# Altium integrated library Xilinx PLD XC9500.IntLib: 114 symbols (part 1 of 7)
Pins are listed as number, name and electrical type; pins without a type are passive.

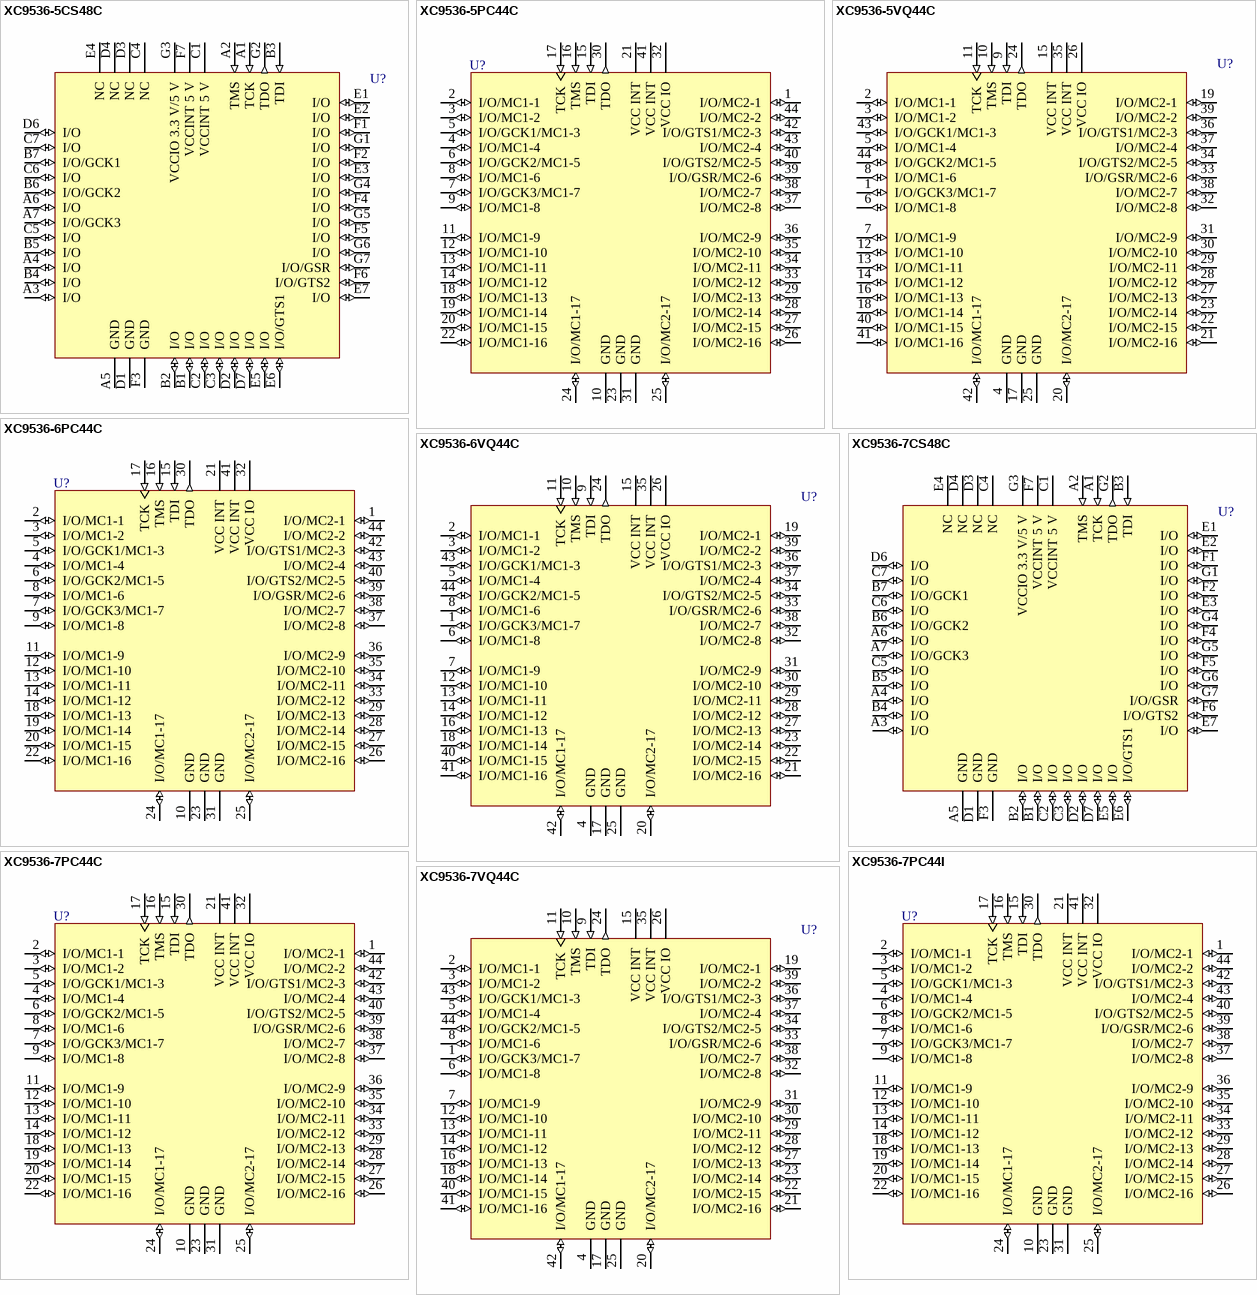
[diagram p0: symbols XC9536-5CS48C to XC9536-7VQ44C]

## XC9536-5CS48C
designator U?
XC9500, 5V CPLD with 36 Macrocells, 48-Ball CSBGA, Commercial Grade; PackageDocument: ver1.1, Apr-2001; Published: 17-Sep-2003; DatasheetDocument: ver6.1, Aug-2003; PackageReference: CS48; Publisher: Altium Limited
footprint CS48 (48-Ball Chip Scale Ball Grid Array (CS48))
3D model XC9536-CS48 (48-Ball Chip Scale Ball Grid Array (CS48))
pins: A1 TCK (in), A2 TMS (in), A3 I/O (io), A4 I/O (io), A5 GND (power), A6 I/O (io), A7 I/O/GCK3 (io), B1 I/O (io), B2 I/O (io), B3 TDI (in), B4 I/O (io), B5 I/O (io), B6 I/O/GCK2 (io), B7 I/O/GCK1 (io), C1 VCCINT 5 V (power), C2 I/O (io), C3 I/O (io), C4 NC, C5 I/O (io), C6 I/O (io), C7 I/O (io), D1 GND (power), D2 I/O (io), D3 NC, D4 NC, D6 I/O (io), D7 I/O (io), E1 I/O (io), E2 I/O (io), E3 I/O (io), E4 NC, E5 I/O (io), E6 I/O/GTS1 (io), E7 I/O (io), F1 I/O (io), F2 I/O (io), F3 GND (power), F4 I/O (io), F5 I/O (io), F6 I/O/GTS2 (io), F7 VCCINT 5 V (power), G1 I/O (io), G2 TDO (out), G3 VCCIO 3.3 V/5 V (power), G4 I/O (io), G5 I/O (io), G6 I/O (io), G7 I/O/GSR (io)

## XC9536-5PC44C
designator U?
XC9500, 5V CPLD with 36 Macrocells, 44-Pin PLCC, Commercial Grade; PackageDocument: ver1.0, Jun-2000; Published: 8-Jun-2000; LatestRevisionDate: 17-Sep-2003; LatestRevisionNote: PCB Footprint dimensions updated; DatasheetDocument: ver6.1, Aug-2003; PackageReference: PC44; Publisher: Altium Limited; Code_JEDEC: MS-047; Code_IPC: PLCC-44
footprint PC44 (44-Pin Plastic Leaded Chip Carrier (PC44))
3D model XC9536-PC44 (44-Pin Plastic Leaded Chip Carrier (PC44))
signal-integrity model XC9536_PLCC44 (XC9500)
pins: 1 I/O/MC2-1 (io), 2 I/O/MC1-1 (io), 3 I/O/MC1-2 (io), 4 I/O/MC1-4 (io), 5 I/O/GCK1/MC1-3 (io), 6 I/O/GCK2/MC1-5 (io), 7 I/O/GCK3/MC1-7 (io), 8 I/O/MC1-6 (io), 9 I/O/MC1-8 (io), 10 GND (power), 11 I/O/MC1-9 (io), 12 I/O/MC1-10 (io), 13 I/O/MC1-11 (io), 14 I/O/MC1-12 (io), 15 TDI (in), 16 TMS (in), 17 TCK (in), 18 I/O/MC1-13 (io), 19 I/O/MC1-14 (io), 20 I/O/MC1-15 (io), 21 VCC INT (power), 22 I/O/MC1-16 (io), 23 GND (power), 24 I/O/MC1-17 (io), 25 I/O/MC2-17 (io), 26 I/O/MC2-16 (io), 27 I/O/MC2-15 (io), 28 I/O/MC2-14 (io), 29 I/O/MC2-13 (io), 30 TDO (out), 31 GND (power), 32 VCC IO (power), 33 I/O/MC2-12 (io), 34 I/O/MC2-11 (io), 35 I/O/MC2-10 (io), 36 I/O/MC2-9 (io), 37 I/O/MC2-8 (io), 38 I/O/MC2-7 (io), 39 I/O/GSR/MC2-6 (io), 40 I/O/GTS2/MC2-5 (io), 41 VCC INT (power), 42 I/O/GTS1/MC2-3 (io), 43 I/O/MC2-4 (io), 44 I/O/MC2-2 (io)

## XC9536-5VQ44C
designator U?
XC9500, 5V CPLD with 36 Macrocells, 44-Pin VQFP, Commercial Grade; PackageDocument: ver1.1, Oct-2002; Published: 8-Jun-2000; LatestRevisionDate: 17-Jul-2002; LatestRevisionNote: Re-released for DXP Platform.; DatasheetDocument: ver6.1, Aug-2003; PackageReference: VQ44; Publisher: Altium Limited; Code_JEDEC: MS-026-ACB
footprint VQ44 (44-Pin Very Thin Quad Flat Pack (VQ44))
3D model XC9536-VQ44 (44-Pin Very Thin Quad Flat Pack (VQ44))
signal-integrity model XC9536_VQ44 (XC9500)
pins: 1 I/O/GCK3/MC1-7 (io), 2 I/O/MC1-1 (io), 3 I/O/MC1-2 (io), 4 GND (power), 5 I/O/MC1-4 (io), 6 I/O/MC1-8 (io), 7 I/O/MC1-9 (io), 8 I/O/MC1-6 (io), 9 TDI (in), 10 TMS (in), 11 TCK (in), 12 I/O/MC1-10 (io), 13 I/O/MC1-11 (io), 14 I/O/MC1-12 (io), 15 VCC INT (power), 16 I/O/MC1-13 (io), 17 GND (power), 18 I/O/MC1-14 (io), 19 I/O/MC2-1 (io), 20 I/O/MC2-17 (io), 21 I/O/MC2-16 (io), 22 I/O/MC2-15 (io), 23 I/O/MC2-14 (io), 24 TDO (out), 25 GND (power), 26 VCC IO (power), 27 I/O/MC2-13 (io), 28 I/O/MC2-12 (io), 29 I/O/MC2-11 (io), 30 I/O/MC2-10 (io), 31 I/O/MC2-9 (io), 32 I/O/MC2-8 (io), 33 I/O/GSR/MC2-6 (io), 34 I/O/GTS2/MC2-5 (io), 35 VCC INT (power), 36 I/O/GTS1/MC2-3 (io), 37 I/O/MC2-4 (io), 38 I/O/MC2-7 (io), 39 I/O/MC2-2 (io), 40 I/O/MC1-15 (io), 41 I/O/MC1-16 (io), 42 I/O/MC1-17 (io), 43 I/O/GCK1/MC1-3 (io), 44 I/O/GCK2/MC1-5 (io)

## XC9536-6PC44C
designator U?
XC9500, 5V CPLD with 36 Macrocells, 44-Pin PLCC, Commercial Grade; PackageDocument: ver1.0, Jun-2000; Published: 17-Sep-2003; DatasheetDocument: ver6.1, Aug-2003; PackageReference: PC44; Publisher: Altium Limited; Code_JEDEC: MS-047; Code_IPC: PLCC-44
footprint PC44 (44-Pin Plastic Leaded Chip Carrier (PC44))
3D model XC9536-PC44 (44-Pin Plastic Leaded Chip Carrier (PC44))
signal-integrity model XC9536_PLCC44 (XC9500)
pins: 1 I/O/MC2-1 (io), 2 I/O/MC1-1 (io), 3 I/O/MC1-2 (io), 4 I/O/MC1-4 (io), 5 I/O/GCK1/MC1-3 (io), 6 I/O/GCK2/MC1-5 (io), 7 I/O/GCK3/MC1-7 (io), 8 I/O/MC1-6 (io), 9 I/O/MC1-8 (io), 10 GND (power), 11 I/O/MC1-9 (io), 12 I/O/MC1-10 (io), 13 I/O/MC1-11 (io), 14 I/O/MC1-12 (io), 15 TDI (in), 16 TMS (in), 17 TCK (in), 18 I/O/MC1-13 (io), 19 I/O/MC1-14 (io), 20 I/O/MC1-15 (io), 21 VCC INT (power), 22 I/O/MC1-16 (io), 23 GND (power), 24 I/O/MC1-17 (io), 25 I/O/MC2-17 (io), 26 I/O/MC2-16 (io), 27 I/O/MC2-15 (io), 28 I/O/MC2-14 (io), 29 I/O/MC2-13 (io), 30 TDO (out), 31 GND (power), 32 VCC IO (power), 33 I/O/MC2-12 (io), 34 I/O/MC2-11 (io), 35 I/O/MC2-10 (io), 36 I/O/MC2-9 (io), 37 I/O/MC2-8 (io), 38 I/O/MC2-7 (io), 39 I/O/GSR/MC2-6 (io), 40 I/O/GTS2/MC2-5 (io), 41 VCC INT (power), 42 I/O/GTS1/MC2-3 (io), 43 I/O/MC2-4 (io), 44 I/O/MC2-2 (io)

## XC9536-6VQ44C
designator U?
XC9500, 5V CPLD with 36 Macrocells, 44-Pin VQFP, Commercial Grade; PackageDocument: ver1.1, Oct-2002; Published: 17-Sep-2003; DatasheetDocument: ver6.1, Aug-2003; PackageReference: VQ44; Publisher: Altium Limited; Code_JEDEC: MS-026-ACB
footprint VQ44 (44-Pin Very Thin Quad Flat Pack (VQ44))
3D model XC9536-VQ44 (44-Pin Very Thin Quad Flat Pack (VQ44))
signal-integrity model XC9536_VQ44 (XC9500)
pins: 1 I/O/GCK3/MC1-7 (io), 2 I/O/MC1-1 (io), 3 I/O/MC1-2 (io), 4 GND (power), 5 I/O/MC1-4 (io), 6 I/O/MC1-8 (io), 7 I/O/MC1-9 (io), 8 I/O/MC1-6 (io), 9 TDI (in), 10 TMS (in), 11 TCK (in), 12 I/O/MC1-10 (io), 13 I/O/MC1-11 (io), 14 I/O/MC1-12 (io), 15 VCC INT (power), 16 I/O/MC1-13 (io), 17 GND (power), 18 I/O/MC1-14 (io), 19 I/O/MC2-1 (io), 20 I/O/MC2-17 (io), 21 I/O/MC2-16 (io), 22 I/O/MC2-15 (io), 23 I/O/MC2-14 (io), 24 TDO (out), 25 GND (power), 26 VCC IO (power), 27 I/O/MC2-13 (io), 28 I/O/MC2-12 (io), 29 I/O/MC2-11 (io), 30 I/O/MC2-10 (io), 31 I/O/MC2-9 (io), 32 I/O/MC2-8 (io), 33 I/O/GSR/MC2-6 (io), 34 I/O/GTS2/MC2-5 (io), 35 VCC INT (power), 36 I/O/GTS1/MC2-3 (io), 37 I/O/MC2-4 (io), 38 I/O/MC2-7 (io), 39 I/O/MC2-2 (io), 40 I/O/MC1-15 (io), 41 I/O/MC1-16 (io), 42 I/O/MC1-17 (io), 43 I/O/GCK1/MC1-3 (io), 44 I/O/GCK2/MC1-5 (io)

## XC9536-7CS48C
designator U?
XC9500, 5V CPLD with 36 Macrocells, 48-Ball CSBGA, Commercial Grade; PackageDocument: ver1.1, Apr-2001; Published: 17-Sep-2003; DatasheetDocument: ver6.1, Aug-2003; PackageReference: CS48; Publisher: Altium Limited
footprint CS48 (48-Ball Chip Scale Ball Grid Array (CS48))
3D model XC9536-CS48 (48-Ball Chip Scale Ball Grid Array (CS48))
pins: A1 TCK (in), A2 TMS (in), A3 I/O (io), A4 I/O (io), A5 GND (power), A6 I/O (io), A7 I/O/GCK3 (io), B1 I/O (io), B2 I/O (io), B3 TDI (in), B4 I/O (io), B5 I/O (io), B6 I/O/GCK2 (io), B7 I/O/GCK1 (io), C1 VCCINT 5 V (power), C2 I/O (io), C3 I/O (io), C4 NC, C5 I/O (io), C6 I/O (io), C7 I/O (io), D1 GND (power), D2 I/O (io), D3 NC, D4 NC, D6 I/O (io), D7 I/O (io), E1 I/O (io), E2 I/O (io), E3 I/O (io), E4 NC, E5 I/O (io), E6 I/O/GTS1 (io), E7 I/O (io), F1 I/O (io), F2 I/O (io), F3 GND (power), F4 I/O (io), F5 I/O (io), F6 I/O/GTS2 (io), F7 VCCINT 5 V (power), G1 I/O (io), G2 TDO (out), G3 VCCIO 3.3 V/5 V (power), G4 I/O (io), G5 I/O (io), G6 I/O (io), G7 I/O/GSR (io)

## XC9536-7PC44C
designator U?
XC9500, 5V CPLD with 36 Macrocells, 44-Pin PLCC, Commercial Grade; PackageDocument: ver1.0, Jun-2000; Published: 8-Jun-2000; LatestRevisionDate: 17-Sep-2003; LatestRevisionNote: PCB Footprint dimensions updated; DatasheetDocument: ver6.1, Aug-2003; PackageReference: PC44; Publisher: Altium Limited; Code_JEDEC: MS-047; Code_IPC: PLCC-44
footprint PC44 (44-Pin Plastic Leaded Chip Carrier (PC44))
3D model XC9536-PC44 (44-Pin Plastic Leaded Chip Carrier (PC44))
signal-integrity model XC9536_PLCC44 (XC9500)
pins: 1 I/O/MC2-1 (io), 2 I/O/MC1-1 (io), 3 I/O/MC1-2 (io), 4 I/O/MC1-4 (io), 5 I/O/GCK1/MC1-3 (io), 6 I/O/GCK2/MC1-5 (io), 7 I/O/GCK3/MC1-7 (io), 8 I/O/MC1-6 (io), 9 I/O/MC1-8 (io), 10 GND (power), 11 I/O/MC1-9 (io), 12 I/O/MC1-10 (io), 13 I/O/MC1-11 (io), 14 I/O/MC1-12 (io), 15 TDI (in), 16 TMS (in), 17 TCK (in), 18 I/O/MC1-13 (io), 19 I/O/MC1-14 (io), 20 I/O/MC1-15 (io), 21 VCC INT (power), 22 I/O/MC1-16 (io), 23 GND (power), 24 I/O/MC1-17 (io), 25 I/O/MC2-17 (io), 26 I/O/MC2-16 (io), 27 I/O/MC2-15 (io), 28 I/O/MC2-14 (io), 29 I/O/MC2-13 (io), 30 TDO (out), 31 GND (power), 32 VCC IO (power), 33 I/O/MC2-12 (io), 34 I/O/MC2-11 (io), 35 I/O/MC2-10 (io), 36 I/O/MC2-9 (io), 37 I/O/MC2-8 (io), 38 I/O/MC2-7 (io), 39 I/O/GSR/MC2-6 (io), 40 I/O/GTS2/MC2-5 (io), 41 VCC INT (power), 42 I/O/GTS1/MC2-3 (io), 43 I/O/MC2-4 (io), 44 I/O/MC2-2 (io)

## XC9536-7PC44I
designator U?
XC9500, 5V CPLD with 36 Macrocells, 44-Pin PLCC, Industrial Grade; PackageDocument: ver1.0, Jun-2000; Published: 17-Sep-2003; DatasheetDocument: ver6.1, Aug-2003; PackageReference: PC44; Publisher: Altium Limited; Code_JEDEC: MS-047; Code_IPC: PLCC-44
footprint PC44 (44-Pin Plastic Leaded Chip Carrier (PC44))
3D model XC9536-PC44 (44-Pin Plastic Leaded Chip Carrier (PC44))
signal-integrity model XC9536_PLCC44 (XC9500)
pins: 1 I/O/MC2-1 (io), 2 I/O/MC1-1 (io), 3 I/O/MC1-2 (io), 4 I/O/MC1-4 (io), 5 I/O/GCK1/MC1-3 (io), 6 I/O/GCK2/MC1-5 (io), 7 I/O/GCK3/MC1-7 (io), 8 I/O/MC1-6 (io), 9 I/O/MC1-8 (io), 10 GND (power), 11 I/O/MC1-9 (io), 12 I/O/MC1-10 (io), 13 I/O/MC1-11 (io), 14 I/O/MC1-12 (io), 15 TDI (in), 16 TMS (in), 17 TCK (in), 18 I/O/MC1-13 (io), 19 I/O/MC1-14 (io), 20 I/O/MC1-15 (io), 21 VCC INT (power), 22 I/O/MC1-16 (io), 23 GND (power), 24 I/O/MC1-17 (io), 25 I/O/MC2-17 (io), 26 I/O/MC2-16 (io), 27 I/O/MC2-15 (io), 28 I/O/MC2-14 (io), 29 I/O/MC2-13 (io), 30 TDO (out), 31 GND (power), 32 VCC IO (power), 33 I/O/MC2-12 (io), 34 I/O/MC2-11 (io), 35 I/O/MC2-10 (io), 36 I/O/MC2-9 (io), 37 I/O/MC2-8 (io), 38 I/O/MC2-7 (io), 39 I/O/GSR/MC2-6 (io), 40 I/O/GTS2/MC2-5 (io), 41 VCC INT (power), 42 I/O/GTS1/MC2-3 (io), 43 I/O/MC2-4 (io), 44 I/O/MC2-2 (io)

## XC9536-7VQ44C
designator U?
XC9500, 5V CPLD with 36 Macrocells, 44-Pin VQFP, Commercial Grade; PackageDocument: ver1.1, Oct-2002; Published: 8-Jun-2000; LatestRevisionDate: 17-Jul-2002; LatestRevisionNote: Re-released for DXP Platform.; DatasheetDocument: ver6.1, Aug-2003; PackageReference: VQ44; Publisher: Altium Limited; Code_JEDEC: MS-026-ACB
footprint VQ44 (44-Pin Very Thin Quad Flat Pack (VQ44))
3D model XC9536-VQ44 (44-Pin Very Thin Quad Flat Pack (VQ44))
signal-integrity model XC9536_VQ44 (XC9500)
pins: 1 I/O/GCK3/MC1-7 (io), 2 I/O/MC1-1 (io), 3 I/O/MC1-2 (io), 4 GND (power), 5 I/O/MC1-4 (io), 6 I/O/MC1-8 (io), 7 I/O/MC1-9 (io), 8 I/O/MC1-6 (io), 9 TDI (in), 10 TMS (in), 11 TCK (in), 12 I/O/MC1-10 (io), 13 I/O/MC1-11 (io), 14 I/O/MC1-12 (io), 15 VCC INT (power), 16 I/O/MC1-13 (io), 17 GND (power), 18 I/O/MC1-14 (io), 19 I/O/MC2-1 (io), 20 I/O/MC2-17 (io), 21 I/O/MC2-16 (io), 22 I/O/MC2-15 (io), 23 I/O/MC2-14 (io), 24 TDO (out), 25 GND (power), 26 VCC IO (power), 27 I/O/MC2-13 (io), 28 I/O/MC2-12 (io), 29 I/O/MC2-11 (io), 30 I/O/MC2-10 (io), 31 I/O/MC2-9 (io), 32 I/O/MC2-8 (io), 33 I/O/GSR/MC2-6 (io), 34 I/O/GTS2/MC2-5 (io), 35 VCC INT (power), 36 I/O/GTS1/MC2-3 (io), 37 I/O/MC2-4 (io), 38 I/O/MC2-7 (io), 39 I/O/MC2-2 (io), 40 I/O/MC1-15 (io), 41 I/O/MC1-16 (io), 42 I/O/MC1-17 (io), 43 I/O/GCK1/MC1-3 (io), 44 I/O/GCK2/MC1-5 (io)

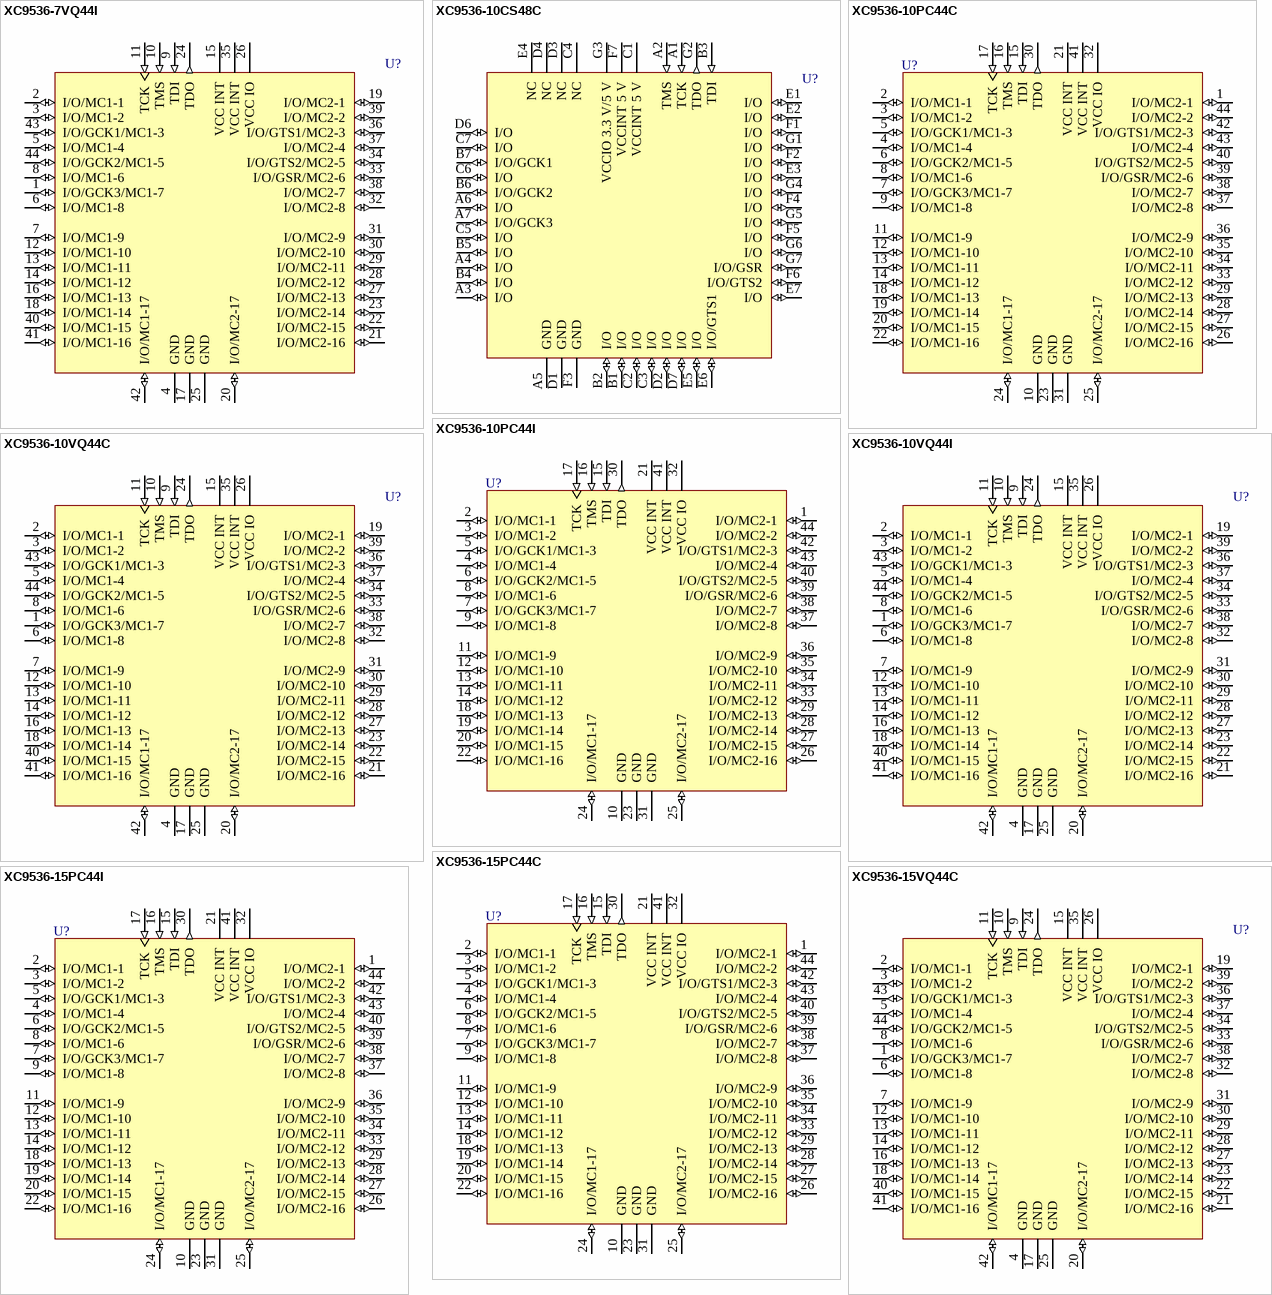
[diagram p1: symbols XC9536-7VQ44I to XC9536-15VQ44C]

## XC9536-7VQ44I
designator U?
XC9500, 5V CPLD with 36 Macrocells, 44-Pin VQFP, Industrial Grade; PackageDocument: ver1.1, Oct-2002; Published: 17-Sep-2003; DatasheetDocument: ver6.1, Aug-2003; PackageReference: VQ44; Publisher: Altium Limited; Code_JEDEC: MS-026-ACB
footprint VQ44 (44-Pin Very Thin Quad Flat Pack (VQ44))
3D model XC9536-VQ44 (44-Pin Very Thin Quad Flat Pack (VQ44))
signal-integrity model XC9536_VQ44 (XC9500)
pins: 1 I/O/GCK3/MC1-7 (io), 2 I/O/MC1-1 (io), 3 I/O/MC1-2 (io), 4 GND (power), 5 I/O/MC1-4 (io), 6 I/O/MC1-8 (io), 7 I/O/MC1-9 (io), 8 I/O/MC1-6 (io), 9 TDI (in), 10 TMS (in), 11 TCK (in), 12 I/O/MC1-10 (io), 13 I/O/MC1-11 (io), 14 I/O/MC1-12 (io), 15 VCC INT (power), 16 I/O/MC1-13 (io), 17 GND (power), 18 I/O/MC1-14 (io), 19 I/O/MC2-1 (io), 20 I/O/MC2-17 (io), 21 I/O/MC2-16 (io), 22 I/O/MC2-15 (io), 23 I/O/MC2-14 (io), 24 TDO (out), 25 GND (power), 26 VCC IO (power), 27 I/O/MC2-13 (io), 28 I/O/MC2-12 (io), 29 I/O/MC2-11 (io), 30 I/O/MC2-10 (io), 31 I/O/MC2-9 (io), 32 I/O/MC2-8 (io), 33 I/O/GSR/MC2-6 (io), 34 I/O/GTS2/MC2-5 (io), 35 VCC INT (power), 36 I/O/GTS1/MC2-3 (io), 37 I/O/MC2-4 (io), 38 I/O/MC2-7 (io), 39 I/O/MC2-2 (io), 40 I/O/MC1-15 (io), 41 I/O/MC1-16 (io), 42 I/O/MC1-17 (io), 43 I/O/GCK1/MC1-3 (io), 44 I/O/GCK2/MC1-5 (io)

## XC9536-10CS48C
designator U?
XC9500, 5V CPLD with 36 Macrocells, 48-Ball CSBGA, Commercial Grade; PackageDocument: ver1.1, Apr-2001; Published: 17-Sep-2003; DatasheetDocument: ver6.1, Aug-2003; PackageReference: CS48; Publisher: Altium Limited
footprint CS48 (48-Ball Chip Scale Ball Grid Array (CS48))
3D model XC9536-CS48 (48-Ball Chip Scale Ball Grid Array (CS48))
pins: A1 TCK (in), A2 TMS (in), A3 I/O (io), A4 I/O (io), A5 GND (power), A6 I/O (io), A7 I/O/GCK3 (io), B1 I/O (io), B2 I/O (io), B3 TDI (in), B4 I/O (io), B5 I/O (io), B6 I/O/GCK2 (io), B7 I/O/GCK1 (io), C1 VCCINT 5 V (power), C2 I/O (io), C3 I/O (io), C4 NC, C5 I/O (io), C6 I/O (io), C7 I/O (io), D1 GND (power), D2 I/O (io), D3 NC, D4 NC, D6 I/O (io), D7 I/O (io), E1 I/O (io), E2 I/O (io), E3 I/O (io), E4 NC, E5 I/O (io), E6 I/O/GTS1 (io), E7 I/O (io), F1 I/O (io), F2 I/O (io), F3 GND (power), F4 I/O (io), F5 I/O (io), F6 I/O/GTS2 (io), F7 VCCINT 5 V (power), G1 I/O (io), G2 TDO (out), G3 VCCIO 3.3 V/5 V (power), G4 I/O (io), G5 I/O (io), G6 I/O (io), G7 I/O/GSR (io)

## XC9536-10PC44C
designator U?
XC9500, 5V CPLD with 36 Macrocells, 44-Pin PLCC, Commercial Grade; PackageDocument: ver1.0, Jun-2000; Published: 8-Jun-2000; LatestRevisionDate: 17-Sep-2003; LatestRevisionNote: PCB Footprint dimensions updated; DatasheetDocument: ver6.1, Aug-2003; PackageReference: PC44; Publisher: Altium Limited; Code_JEDEC: MS-047; Code_IPC: PLCC-44
footprint PC44 (44-Pin Plastic Leaded Chip Carrier (PC44))
3D model XC9536-PC44 (44-Pin Plastic Leaded Chip Carrier (PC44))
signal-integrity model XC9536_PLCC44 (XC9500)
pins: 1 I/O/MC2-1 (io), 2 I/O/MC1-1 (io), 3 I/O/MC1-2 (io), 4 I/O/MC1-4 (io), 5 I/O/GCK1/MC1-3 (io), 6 I/O/GCK2/MC1-5 (io), 7 I/O/GCK3/MC1-7 (io), 8 I/O/MC1-6 (io), 9 I/O/MC1-8 (io), 10 GND (power), 11 I/O/MC1-9 (io), 12 I/O/MC1-10 (io), 13 I/O/MC1-11 (io), 14 I/O/MC1-12 (io), 15 TDI (in), 16 TMS (in), 17 TCK (in), 18 I/O/MC1-13 (io), 19 I/O/MC1-14 (io), 20 I/O/MC1-15 (io), 21 VCC INT (power), 22 I/O/MC1-16 (io), 23 GND (power), 24 I/O/MC1-17 (io), 25 I/O/MC2-17 (io), 26 I/O/MC2-16 (io), 27 I/O/MC2-15 (io), 28 I/O/MC2-14 (io), 29 I/O/MC2-13 (io), 30 TDO (out), 31 GND (power), 32 VCC IO (power), 33 I/O/MC2-12 (io), 34 I/O/MC2-11 (io), 35 I/O/MC2-10 (io), 36 I/O/MC2-9 (io), 37 I/O/MC2-8 (io), 38 I/O/MC2-7 (io), 39 I/O/GSR/MC2-6 (io), 40 I/O/GTS2/MC2-5 (io), 41 VCC INT (power), 42 I/O/GTS1/MC2-3 (io), 43 I/O/MC2-4 (io), 44 I/O/MC2-2 (io)

## XC9536-10PC44I
designator U?
XC9500, 5V CPLD with 36 Macrocells, 44-Pin PLCC, Industrial Grade; PackageDocument: ver1.0, Jun-2000; Published: 8-Jun-2000; LatestRevisionDate: 17-Sep-2003; LatestRevisionNote: PCB Footprint dimensions updated; DatasheetDocument: ver6.1, Aug-2003; PackageReference: PC44; Publisher: Altium Limited; Code_JEDEC: MS-047; Code_IPC: PLCC-44
footprint PC44 (44-Pin Plastic Leaded Chip Carrier (PC44))
3D model XC9536-PC44 (44-Pin Plastic Leaded Chip Carrier (PC44))
signal-integrity model XC9536_PLCC44 (XC9500)
pins: 1 I/O/MC2-1 (io), 2 I/O/MC1-1 (io), 3 I/O/MC1-2 (io), 4 I/O/MC1-4 (io), 5 I/O/GCK1/MC1-3 (io), 6 I/O/GCK2/MC1-5 (io), 7 I/O/GCK3/MC1-7 (io), 8 I/O/MC1-6 (io), 9 I/O/MC1-8 (io), 10 GND (power), 11 I/O/MC1-9 (io), 12 I/O/MC1-10 (io), 13 I/O/MC1-11 (io), 14 I/O/MC1-12 (io), 15 TDI (in), 16 TMS (in), 17 TCK (in), 18 I/O/MC1-13 (io), 19 I/O/MC1-14 (io), 20 I/O/MC1-15 (io), 21 VCC INT (power), 22 I/O/MC1-16 (io), 23 GND (power), 24 I/O/MC1-17 (io), 25 I/O/MC2-17 (io), 26 I/O/MC2-16 (io), 27 I/O/MC2-15 (io), 28 I/O/MC2-14 (io), 29 I/O/MC2-13 (io), 30 TDO (out), 31 GND (power), 32 VCC IO (power), 33 I/O/MC2-12 (io), 34 I/O/MC2-11 (io), 35 I/O/MC2-10 (io), 36 I/O/MC2-9 (io), 37 I/O/MC2-8 (io), 38 I/O/MC2-7 (io), 39 I/O/GSR/MC2-6 (io), 40 I/O/GTS2/MC2-5 (io), 41 VCC INT (power), 42 I/O/GTS1/MC2-3 (io), 43 I/O/MC2-4 (io), 44 I/O/MC2-2 (io)

## XC9536-10VQ44C
designator U?
XC9500, 5V CPLD with 36 Macrocells, 44-Pin VQFP, Commercial Grade; PackageDocument: ver1.1, Oct-2002; Published: 8-Jun-2000; LatestRevisionDate: 17-Jul-2002; LatestRevisionNote: Re-released for DXP Platform.; DatasheetDocument: ver6.1, Aug-2003; PackageReference: VQ44; Publisher: Altium Limited; Code_JEDEC: MS-026-ACB
footprint VQ44 (44-Pin Very Thin Quad Flat Pack (VQ44))
3D model XC9536-VQ44 (44-Pin Very Thin Quad Flat Pack (VQ44))
signal-integrity model XC9536_VQ44 (XC9500)
pins: 1 I/O/GCK3/MC1-7 (io), 2 I/O/MC1-1 (io), 3 I/O/MC1-2 (io), 4 GND (power), 5 I/O/MC1-4 (io), 6 I/O/MC1-8 (io), 7 I/O/MC1-9 (io), 8 I/O/MC1-6 (io), 9 TDI (in), 10 TMS (in), 11 TCK (in), 12 I/O/MC1-10 (io), 13 I/O/MC1-11 (io), 14 I/O/MC1-12 (io), 15 VCC INT (power), 16 I/O/MC1-13 (io), 17 GND (power), 18 I/O/MC1-14 (io), 19 I/O/MC2-1 (io), 20 I/O/MC2-17 (io), 21 I/O/MC2-16 (io), 22 I/O/MC2-15 (io), 23 I/O/MC2-14 (io), 24 TDO (out), 25 GND (power), 26 VCC IO (power), 27 I/O/MC2-13 (io), 28 I/O/MC2-12 (io), 29 I/O/MC2-11 (io), 30 I/O/MC2-10 (io), 31 I/O/MC2-9 (io), 32 I/O/MC2-8 (io), 33 I/O/GSR/MC2-6 (io), 34 I/O/GTS2/MC2-5 (io), 35 VCC INT (power), 36 I/O/GTS1/MC2-3 (io), 37 I/O/MC2-4 (io), 38 I/O/MC2-7 (io), 39 I/O/MC2-2 (io), 40 I/O/MC1-15 (io), 41 I/O/MC1-16 (io), 42 I/O/MC1-17 (io), 43 I/O/GCK1/MC1-3 (io), 44 I/O/GCK2/MC1-5 (io)

## XC9536-10VQ44I
designator U?
XC9500, 5V CPLD with 36 Macrocells, 44-Pin VQFP, Industrial Grade; PackageDocument: ver1.1, Oct-2002; Published: 8-Jun-2000; LatestRevisionDate: 17-Jul-2002; LatestRevisionNote: Re-released for DXP Platform.; DatasheetDocument: ver6.1, Aug-2003; PackageReference: VQ44; Publisher: Altium Limited; Code_JEDEC: MS-026-ACB
footprint VQ44 (44-Pin Very Thin Quad Flat Pack (VQ44))
3D model XC9536-VQ44 (44-Pin Very Thin Quad Flat Pack (VQ44))
signal-integrity model XC9536_VQ44 (XC9500)
pins: 1 I/O/GCK3/MC1-7 (io), 2 I/O/MC1-1 (io), 3 I/O/MC1-2 (io), 4 GND (power), 5 I/O/MC1-4 (io), 6 I/O/MC1-8 (io), 7 I/O/MC1-9 (io), 8 I/O/MC1-6 (io), 9 TDI (in), 10 TMS (in), 11 TCK (in), 12 I/O/MC1-10 (io), 13 I/O/MC1-11 (io), 14 I/O/MC1-12 (io), 15 VCC INT (power), 16 I/O/MC1-13 (io), 17 GND (power), 18 I/O/MC1-14 (io), 19 I/O/MC2-1 (io), 20 I/O/MC2-17 (io), 21 I/O/MC2-16 (io), 22 I/O/MC2-15 (io), 23 I/O/MC2-14 (io), 24 TDO (out), 25 GND (power), 26 VCC IO (power), 27 I/O/MC2-13 (io), 28 I/O/MC2-12 (io), 29 I/O/MC2-11 (io), 30 I/O/MC2-10 (io), 31 I/O/MC2-9 (io), 32 I/O/MC2-8 (io), 33 I/O/GSR/MC2-6 (io), 34 I/O/GTS2/MC2-5 (io), 35 VCC INT (power), 36 I/O/GTS1/MC2-3 (io), 37 I/O/MC2-4 (io), 38 I/O/MC2-7 (io), 39 I/O/MC2-2 (io), 40 I/O/MC1-15 (io), 41 I/O/MC1-16 (io), 42 I/O/MC1-17 (io), 43 I/O/GCK1/MC1-3 (io), 44 I/O/GCK2/MC1-5 (io)

## XC9536-15PC44C
designator U?
XC9500, 5V CPLD with 36 Macrocells, 44-Pin PLCC, Commercial Grade; PackageDocument: ver1.0, Jun-2000; Published: 8-Jun-2000; LatestRevisionDate: 17-Sep-2003; LatestRevisionNote: PCB Footprint dimensions updated; DatasheetDocument: ver6.1, Aug-2003; PackageReference: PC44; Publisher: Altium Limited; Code_JEDEC: MS-047; Code_IPC: PLCC-44
footprint PC44 (44-Pin Plastic Leaded Chip Carrier (PC44))
3D model XC9536-PC44 (44-Pin Plastic Leaded Chip Carrier (PC44))
signal-integrity model XC9536_PLCC44 (XC9500)
pins: 1 I/O/MC2-1 (io), 2 I/O/MC1-1 (io), 3 I/O/MC1-2 (io), 4 I/O/MC1-4 (io), 5 I/O/GCK1/MC1-3 (io), 6 I/O/GCK2/MC1-5 (io), 7 I/O/GCK3/MC1-7 (io), 8 I/O/MC1-6 (io), 9 I/O/MC1-8 (io), 10 GND (power), 11 I/O/MC1-9 (io), 12 I/O/MC1-10 (io), 13 I/O/MC1-11 (io), 14 I/O/MC1-12 (io), 15 TDI (in), 16 TMS (in), 17 TCK (in), 18 I/O/MC1-13 (io), 19 I/O/MC1-14 (io), 20 I/O/MC1-15 (io), 21 VCC INT (power), 22 I/O/MC1-16 (io), 23 GND (power), 24 I/O/MC1-17 (io), 25 I/O/MC2-17 (io), 26 I/O/MC2-16 (io), 27 I/O/MC2-15 (io), 28 I/O/MC2-14 (io), 29 I/O/MC2-13 (io), 30 TDO (out), 31 GND (power), 32 VCC IO (power), 33 I/O/MC2-12 (io), 34 I/O/MC2-11 (io), 35 I/O/MC2-10 (io), 36 I/O/MC2-9 (io), 37 I/O/MC2-8 (io), 38 I/O/MC2-7 (io), 39 I/O/GSR/MC2-6 (io), 40 I/O/GTS2/MC2-5 (io), 41 VCC INT (power), 42 I/O/GTS1/MC2-3 (io), 43 I/O/MC2-4 (io), 44 I/O/MC2-2 (io)

## XC9536-15PC44I
designator U?
XC9500, 5V CPLD with 36 Macrocells, 44-Pin PLCC, Industrial Grade; PackageDocument: ver1.0, Jun-2000; Published: 8-Jun-2000; LatestRevisionDate: 17-Sep-2003; LatestRevisionNote: PCB Footprint dimensions updated; DatasheetDocument: ver6.1, Aug-2003; PackageReference: PC44; Publisher: Altium Limited; Code_JEDEC: MS-047; Code_IPC: PLCC-44
footprint PC44 (44-Pin Plastic Leaded Chip Carrier (PC44))
3D model XC9536-PC44 (44-Pin Plastic Leaded Chip Carrier (PC44))
signal-integrity model XC9536_PLCC44 (XC9500)
pins: 1 I/O/MC2-1 (io), 2 I/O/MC1-1 (io), 3 I/O/MC1-2 (io), 4 I/O/MC1-4 (io), 5 I/O/GCK1/MC1-3 (io), 6 I/O/GCK2/MC1-5 (io), 7 I/O/GCK3/MC1-7 (io), 8 I/O/MC1-6 (io), 9 I/O/MC1-8 (io), 10 GND (power), 11 I/O/MC1-9 (io), 12 I/O/MC1-10 (io), 13 I/O/MC1-11 (io), 14 I/O/MC1-12 (io), 15 TDI (in), 16 TMS (in), 17 TCK (in), 18 I/O/MC1-13 (io), 19 I/O/MC1-14 (io), 20 I/O/MC1-15 (io), 21 VCC INT (power), 22 I/O/MC1-16 (io), 23 GND (power), 24 I/O/MC1-17 (io), 25 I/O/MC2-17 (io), 26 I/O/MC2-16 (io), 27 I/O/MC2-15 (io), 28 I/O/MC2-14 (io), 29 I/O/MC2-13 (io), 30 TDO (out), 31 GND (power), 32 VCC IO (power), 33 I/O/MC2-12 (io), 34 I/O/MC2-11 (io), 35 I/O/MC2-10 (io), 36 I/O/MC2-9 (io), 37 I/O/MC2-8 (io), 38 I/O/MC2-7 (io), 39 I/O/GSR/MC2-6 (io), 40 I/O/GTS2/MC2-5 (io), 41 VCC INT (power), 42 I/O/GTS1/MC2-3 (io), 43 I/O/MC2-4 (io), 44 I/O/MC2-2 (io)

## XC9536-15VQ44C
designator U?
XC9500, 5V CPLD with 36 Macrocells, 44-Pin VQFP, Commercial Grade; PackageDocument: ver1.1, Oct-2002; Published: 8-Jun-2000; LatestRevisionDate: 17-Jul-2002; LatestRevisionNote: Re-released for DXP Platform.; DatasheetDocument: ver6.1, Aug-2003; PackageReference: VQ44; Publisher: Altium Limited; Code_JEDEC: MS-026-ACB
footprint VQ44 (44-Pin Very Thin Quad Flat Pack (VQ44))
3D model XC9536-VQ44 (44-Pin Very Thin Quad Flat Pack (VQ44))
signal-integrity model XC9536_VQ44 (XC9500)
pins: 1 I/O/GCK3/MC1-7 (io), 2 I/O/MC1-1 (io), 3 I/O/MC1-2 (io), 4 GND (power), 5 I/O/MC1-4 (io), 6 I/O/MC1-8 (io), 7 I/O/MC1-9 (io), 8 I/O/MC1-6 (io), 9 TDI (in), 10 TMS (in), 11 TCK (in), 12 I/O/MC1-10 (io), 13 I/O/MC1-11 (io), 14 I/O/MC1-12 (io), 15 VCC INT (power), 16 I/O/MC1-13 (io), 17 GND (power), 18 I/O/MC1-14 (io), 19 I/O/MC2-1 (io), 20 I/O/MC2-17 (io), 21 I/O/MC2-16 (io), 22 I/O/MC2-15 (io), 23 I/O/MC2-14 (io), 24 TDO (out), 25 GND (power), 26 VCC IO (power), 27 I/O/MC2-13 (io), 28 I/O/MC2-12 (io), 29 I/O/MC2-11 (io), 30 I/O/MC2-10 (io), 31 I/O/MC2-9 (io), 32 I/O/MC2-8 (io), 33 I/O/GSR/MC2-6 (io), 34 I/O/GTS2/MC2-5 (io), 35 VCC INT (power), 36 I/O/GTS1/MC2-3 (io), 37 I/O/MC2-4 (io), 38 I/O/MC2-7 (io), 39 I/O/MC2-2 (io), 40 I/O/MC1-15 (io), 41 I/O/MC1-16 (io), 42 I/O/MC1-17 (io), 43 I/O/GCK1/MC1-3 (io), 44 I/O/GCK2/MC1-5 (io)

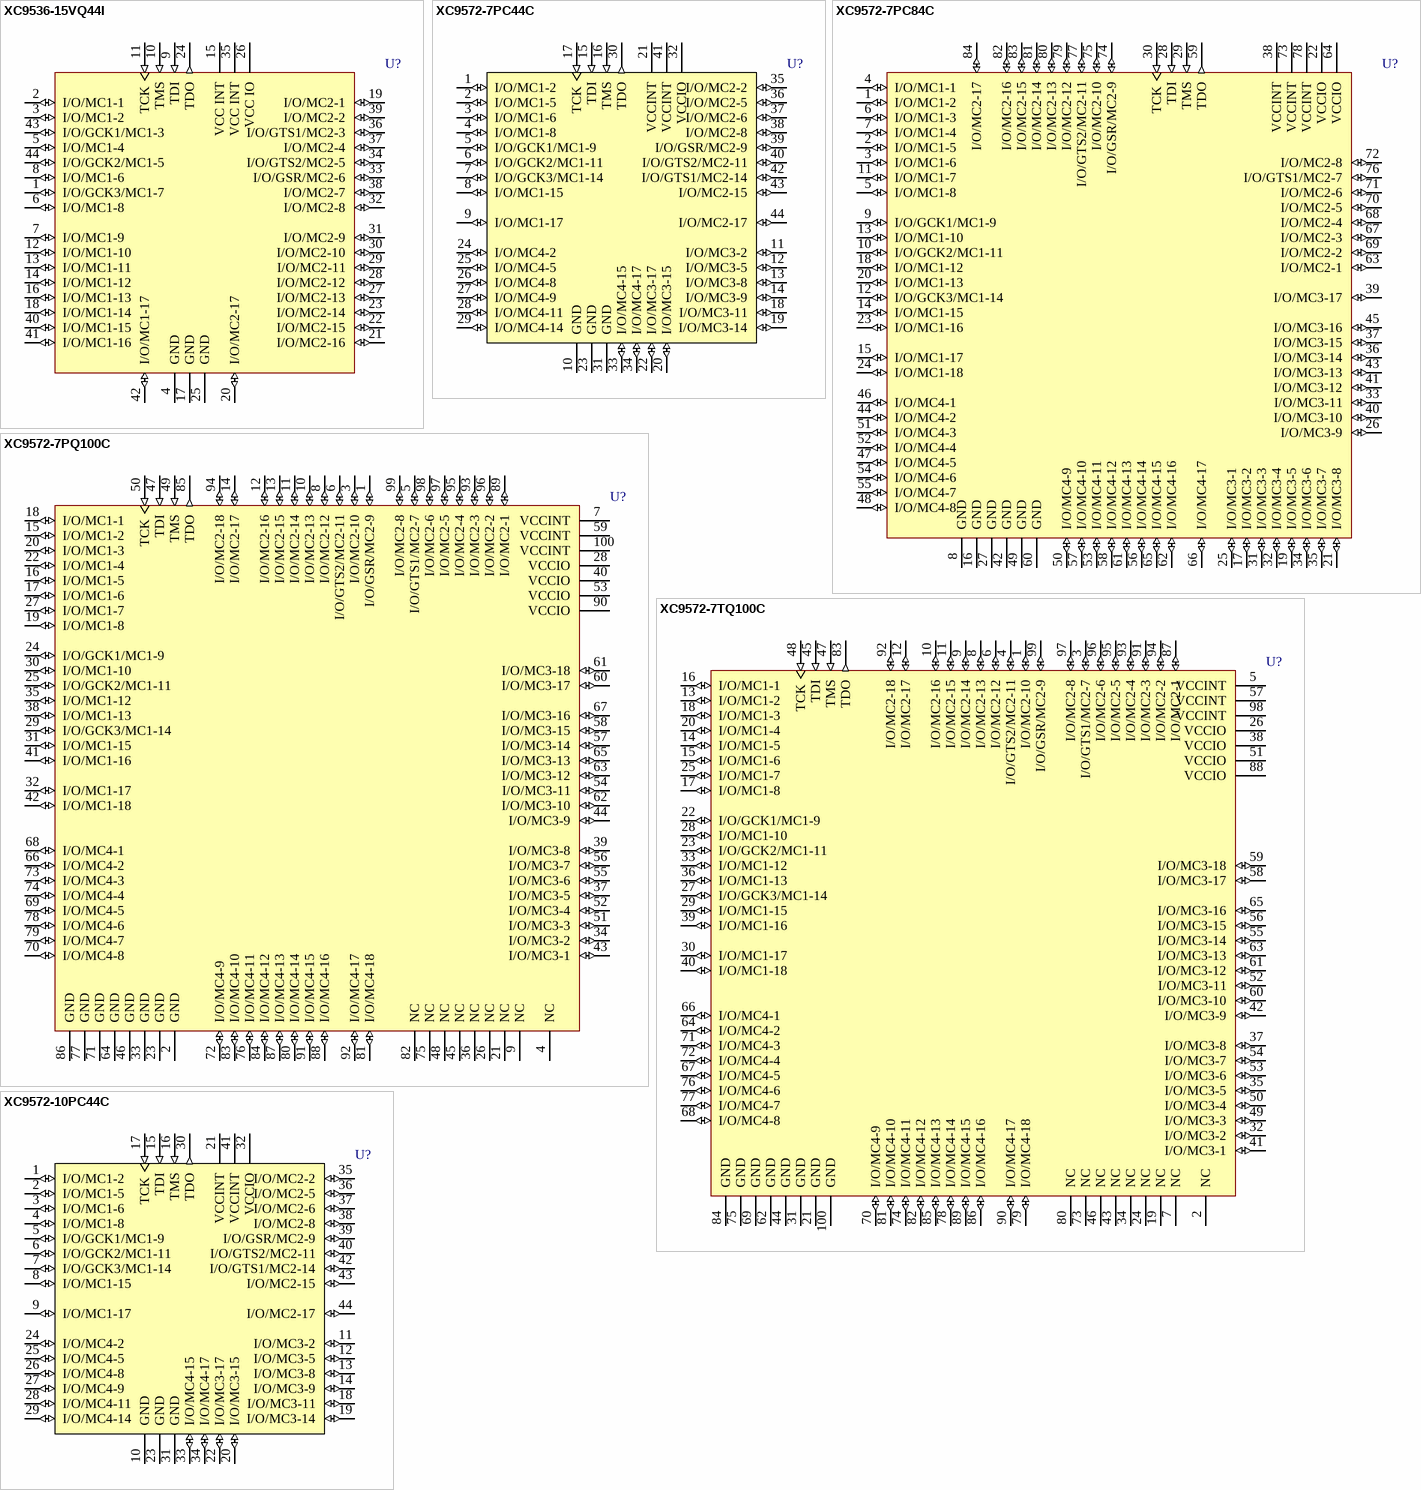
[diagram p2: symbols XC9536-15VQ44I to XC9572-10PC44C]

## XC9536-15VQ44I
designator U?
XC9500, 5V CPLD with 36 Macrocells, 44-Pin VQFP, Industrial Grade; PackageDocument: ver1.1, Oct-2002; Published: 8-Jun-2000; LatestRevisionDate: 17-Jul-2002; LatestRevisionNote: Re-released for DXP Platform.; DatasheetDocument: ver6.1, Aug-2003; PackageReference: VQ44; Publisher: Altium Limited; Code_JEDEC: MS-026-ACB
footprint VQ44 (44-Pin Very Thin Quad Flat Pack (VQ44))
3D model XC9536-VQ44 (44-Pin Very Thin Quad Flat Pack (VQ44))
signal-integrity model XC9536_VQ44 (XC9500)
pins: 1 I/O/GCK3/MC1-7 (io), 2 I/O/MC1-1 (io), 3 I/O/MC1-2 (io), 4 GND (power), 5 I/O/MC1-4 (io), 6 I/O/MC1-8 (io), 7 I/O/MC1-9 (io), 8 I/O/MC1-6 (io), 9 TDI (in), 10 TMS (in), 11 TCK (in), 12 I/O/MC1-10 (io), 13 I/O/MC1-11 (io), 14 I/O/MC1-12 (io), 15 VCC INT (power), 16 I/O/MC1-13 (io), 17 GND (power), 18 I/O/MC1-14 (io), 19 I/O/MC2-1 (io), 20 I/O/MC2-17 (io), 21 I/O/MC2-16 (io), 22 I/O/MC2-15 (io), 23 I/O/MC2-14 (io), 24 TDO (out), 25 GND (power), 26 VCC IO (power), 27 I/O/MC2-13 (io), 28 I/O/MC2-12 (io), 29 I/O/MC2-11 (io), 30 I/O/MC2-10 (io), 31 I/O/MC2-9 (io), 32 I/O/MC2-8 (io), 33 I/O/GSR/MC2-6 (io), 34 I/O/GTS2/MC2-5 (io), 35 VCC INT (power), 36 I/O/GTS1/MC2-3 (io), 37 I/O/MC2-4 (io), 38 I/O/MC2-7 (io), 39 I/O/MC2-2 (io), 40 I/O/MC1-15 (io), 41 I/O/MC1-16 (io), 42 I/O/MC1-17 (io), 43 I/O/GCK1/MC1-3 (io), 44 I/O/GCK2/MC1-5 (io)

## XC9572-7PC44C
designator U?
XC9500, 5V CPLD with 72 Macrocells, 44-Pin PLCC, Commercial Grade; PackageDocument: ver1.0, Jun-2000; Published: 8-Jun-2000; LatestRevisionDate: 17-Sep-2003; LatestRevisionNote: PCB Footprint dimensions updated; DatasheetDocument: ver4.1, Aug-2003; PackageReference: PC44; Publisher: Altium Limited; Code_JEDEC: MS-047; Code_IPC: PLCC-44
footprint PC44 (44-Pin Plastic Leaded Chip Carrier (PC44))
3D model XC9572-PC44 (44-Pin Plastic Leaded Chip Carrier (PC44))
signal-integrity model XC9572_PLCC44 (XC9500)
pins: 1 I/O/MC1-2 (io), 2 I/O/MC1-5 (io), 3 I/O/MC1-6 (io), 4 I/O/MC1-8 (io), 5 I/O/GCK1/MC1-9 (io), 6 I/O/GCK2/MC1-11 (io), 7 I/O/GCK3/MC1-14 (io), 8 I/O/MC1-15 (io), 9 I/O/MC1-17 (io), 10 GND (power), 11 I/O/MC3-2 (io), 12 I/O/MC3-5 (io), 13 I/O/MC3-8 (io), 14 I/O/MC3-9 (io), 15 TDI (in), 16 TMS (in), 17 TCK (in), 18 I/O/MC3-11 (io), 19 I/O/MC3-14 (io), 20 I/O/MC3-15 (io), 21 VCCINT (power), 22 I/O/MC3-17 (io), 23 GND (power), 24 I/O/MC4-2 (io), 25 I/O/MC4-5 (io), 26 I/O/MC4-8 (io), 27 I/O/MC4-9 (io), 28 I/O/MC4-11 (io), 29 I/O/MC4-14 (io), 30 TDO (out), 31 GND (power), 32 VCCIO (power), 33 I/O/MC4-15 (io), 34 I/O/MC4-17 (io), 35 I/O/MC2-2 (io), 36 I/O/MC2-5 (io), 37 I/O/MC2-6 (io), 38 I/O/MC2-8 (io), 39 I/O/GSR/MC2-9 (io), 40 I/O/GTS2/MC2-11 (io), 41 VCCINT (power), 42 I/O/GTS1/MC2-14 (io), 43 I/O/MC2-15 (io), 44 I/O/MC2-17 (io)

## XC9572-7PC84C
designator U?
XC9500, 5V CPLD with 72 Macrocells, 84-Pin PLCC, Commercial Grade; PackageDocument: ver1.0, Jun-2000; Published: 8-Jun-2000; LatestRevisionDate: 17-Sep-2003; LatestRevisionNote: PCB Footprint dimensions updated; DatasheetDocument: ver4.1, Aug-2003; PackageReference: PC84; Publisher: Altium Limited; Code_JEDEC: MS-047; Code_IPC: PLCC-84
footprint PC84 (84-Pin Plastic Leaded Chip Carrier (PC84))
3D model XC9572-PC84 (84-Pin Plastic Leaded Chip Carrier (PC84))
signal-integrity model XC9572_PLCC84 (XC9500)
pins: 1 I/O/MC1-2 (io), 2 I/O/MC1-5 (io), 3 I/O/MC1-6 (io), 4 I/O/MC1-1 (io), 5 I/O/MC1-8 (io), 6 I/O/MC1-3 (io), 7 I/O/MC1-4 (io), 8 GND (power), 9 I/O/GCK1/MC1-9 (io), 10 I/O/GCK2/MC1-11 (io), 11 I/O/MC1-7 (io), 12 I/O/GCK3/MC1-14 (io), 13 I/O/MC1-10 (io), 14 I/O/MC1-15 (io), 15 I/O/MC1-17 (io), 16 GND (power), 17 I/O/MC3-2 (io), 18 I/O/MC1-12 (io), 19 I/O/MC3-5 (io), 20 I/O/MC1-13 (io), 21 I/O/MC3-8 (io), 22 VCCIO (power), 23 I/O/MC1-16 (io), 24 I/O/MC1-18 (io), 25 I/O/MC3-1 (io), 26 I/O/MC3-9 (io), 27 GND (power), 28 TDI (in), 29 TMS (in), 30 TCK (in), 31 I/O/MC3-3 (io), 32 I/O/MC3-4 (io), 33 I/O/MC3-11 (io), 34 I/O/MC3-6 (io), 35 I/O/MC3-7 (io), 36 I/O/MC3-14 (io), 37 I/O/MC3-15 (io), 38 VCCINT (power), 39 I/O/MC3-17 (io), 40 I/O/MC3-10 (io), 41 I/O/MC3-12 (io), 42 GND (power), 43 I/O/MC3-13 (io), 44 I/O/MC4-2 (io), 45 I/O/MC3-16 (io), 46 I/O/MC4-1 (io), 47 I/O/MC4-5 (io), 48 I/O/MC4-8 (io), 49 GND (power), 50 I/O/MC4-9 (io), 51 I/O/MC4-3 (io), 52 I/O/MC4-4 (io), 53 I/O/MC4-11 (io), 54 I/O/MC4-6 (io), 55 I/O/MC4-7 (io), 56 I/O/MC4-14 (io), 57 I/O/MC4-10 (io), 58 I/O/MC4-12 (io), 59 TDO (out), 60 GND (power), 61 I/O/MC4-13 (io), 62 I/O/MC4-16 (io), 63 I/O/MC2-1 (io), 64 VCCIO (power), 65 I/O/MC4-15 (io), 66 I/O/MC4-17 (io), 67 I/O/MC2-3 (io), 68 I/O/MC2-4 (io), 69 I/O/MC2-2 (io), 70 I/O/MC2-5 (io), 71 I/O/MC2-6 (io), 72 I/O/MC2-8 (io), 73 VCCINT (power), 74 I/O/GSR/MC2-9 (io), 75 I/O/MC2-10 (io), 76 I/O/GTS1/MC2-7 (io), 77 I/O/GTS2/MC2-11 (io), 78 VCCINT (power), 79 I/O/MC2-12 (io), 80 I/O/MC2-13 (io), 81 I/O/MC2-14 (io), 82 I/O/MC2-16 (io), 83 I/O/MC2-15 (io), 84 I/O/MC2-17 (io)

## XC9572-7PQ100C
designator U?
XC9500, 5V CPLD with 72 Macrocells, 100-Pin PQFP, Commercial Grade; PackageDocument: ver1.2, Oct-2002; Published: 8-Jun-2000; LatestRevisionDate: 17-Sep-2003; LatestRevisionNote: PCB Footprint dimensions updated; DatasheetDocument: ver4.1, Aug-2003; PackageReference: PQ100; Publisher: Altium Limited; Code_IPC: QFP-14X20-100
footprint PQ100 (100-Pin Plastic Quad Flat Pack (PQ100))
3D model XC9572-PQ100 (100-Pin Plastic Quad Flat Pack (PQ100))
signal-integrity model XC9572_PQ100 (XC9500)
pins: 1 I/O/GSR/MC2-9 (io), 2 GND (power), 3 I/O/MC2-10 (io), 4 NC, 5 I/O/GTS1/MC2-7 (io), 6 I/O/GTS2/MC2-11 (io), 7 VCCINT (power), 8 I/O/MC2-12 (io), 9 NC, 10 I/O/MC2-13 (io), 11 I/O/MC2-14 (io), 12 I/O/MC2-16 (io), 13 I/O/MC2-15 (io), 14 I/O/MC2-17 (io), 15 I/O/MC1-2 (io), 16 I/O/MC1-5 (io), 17 I/O/MC1-6 (io), 18 I/O/MC1-1 (io), 19 I/O/MC1-8 (io), 20 I/O/MC1-3 (io), 21 NC, 22 I/O/MC1-4 (io), 23 GND (power), 24 I/O/GCK1/MC1-9 (io), 25 I/O/GCK2/MC1-11 (io), 26 NC, 27 I/O/MC1-7 (io), 28 VCCIO (power), 29 I/O/GCK3/MC1-14 (io), 30 I/O/MC1-10 (io), 31 I/O/MC1-15 (io), 32 I/O/MC1-17 (io), 33 GND (power), 34 I/O/MC3-2 (io), 35 I/O/MC1-12 (io), 36 NC, 37 I/O/MC3-5 (io), 38 I/O/MC1-13 (io), 39 I/O/MC3-8 (io), 40 VCCIO (power), 41 I/O/MC1-16 (io), 42 I/O/MC1-18 (io), 43 I/O/MC3-1 (io), 44 I/O/MC3-9 (io), 45 NC, 46 GND (power), 47 TDI (in), 48 NC, 49 TMS (in), 50 TCK (in), 51 I/O/MC3-3 (io), 52 I/O/MC3-4 (io), 53 VCCIO (power), 54 I/O/MC3-11 (io), 55 I/O/MC3-6 (io), 56 I/O/MC3-7 (io), 57 I/O/MC3-14 (io), 58 I/O/MC3-15 (io), 59 VCCINT (power), 60 I/O/MC3-17 (io), 61 I/O/MC3-18 (io), 62 I/O/MC3-10 (io), 63 I/O/MC3-12 (io), 64 GND (power), 65 I/O/MC3-13 (io), 66 I/O/MC4-2 (io), 67 I/O/MC3-16 (io), 68 I/O/MC4-1 (io), 69 I/O/MC4-5 (io), 70 I/O/MC4-8 (io), 71 GND (power), 72 I/O/MC4-9 (io), 73 I/O/MC4-3 (io), 74 I/O/MC4-4 (io), 75 NC, 76 I/O/MC4-11 (io), 77 GND (power), 78 I/O/MC4-6 (io), 79 I/O/MC4-7 (io), 80 I/O/MC4-14 (io), 81 I/O/MC4-18 (io), 82 NC, 83 I/O/MC4-10 (io), 84 I/O/MC4-12 (io), 85 TDO (out), 86 GND (power), 87 I/O/MC4-13 (io), 88 I/O/MC4-16 (io), 89 I/O/MC2-1 (io), 90 VCCIO (power), 91 I/O/MC4-15 (io), 92 I/O/MC4-17 (io), 93 I/O/MC2-3 (io), 94 I/O/MC2-18 (io), 95 I/O/MC2-4 (io), 96 I/O/MC2-2 (io), 97 I/O/MC2-5 (io), 98 I/O/MC2-6 (io), 99 I/O/MC2-8 (io), 100 VCCINT (power)

## XC9572-7TQ100C
designator U?
XC9500, 5V CPLD with 72 Macrocells, 100-Pin TQFP, Commercial Grade; PackageDocument: ver1.1, Oct-2002; Published: 8-Jun-2000; LatestRevisionDate: 17-Jul-2002; LatestRevisionNote: Re-released for DXP Platform.; DatasheetDocument: ver4.1, Aug-2003; PackageReference: TQ100; Publisher: Altium Limited; Code_IPC: SQFP14X14-100
footprint TQ100 (100-Pin Thin Quad Flat Pack (TQ100))
3D model XC9572-TQ100 (100-Pin Thin Quad Flat Pack (TQ100))
signal-integrity model XC9572_TQ100 (XC9500)
pins: 1 I/O/MC2-10 (io), 2 NC, 3 I/O/GTS1/MC2-7 (io), 4 I/O/GTS2/MC2-11 (io), 5 VCCINT (power), 6 I/O/MC2-12 (io), 7 NC, 8 I/O/MC2-13 (io), 9 I/O/MC2-14 (io), 10 I/O/MC2-16 (io), 11 I/O/MC2-15 (io), 12 I/O/MC2-17 (io), 13 I/O/MC1-2 (io), 14 I/O/MC1-5 (io), 15 I/O/MC1-6 (io), 16 I/O/MC1-1 (io), 17 I/O/MC1-8 (io), 18 I/O/MC1-3 (io), 19 NC, 20 I/O/MC1-4 (io), 21 GND (power), 22 I/O/GCK1/MC1-9 (io), 23 I/O/GCK2/MC1-11 (io), 24 NC, 25 I/O/MC1-7 (io), 26 VCCIO (power), 27 I/O/GCK3/MC1-14 (io), 28 I/O/MC1-10 (io), 29 I/O/MC1-15 (io), 30 I/O/MC1-17 (io), 31 GND (power), 32 I/O/MC3-2 (io), 33 I/O/MC1-12 (io), 34 NC, 35 I/O/MC3-5 (io), 36 I/O/MC1-13 (io), 37 I/O/MC3-8 (io), 38 VCCIO (power), 39 I/O/MC1-16 (io), 40 I/O/MC1-18 (io), 41 I/O/MC3-1 (io), 42 I/O/MC3-9 (io), 43 NC, 44 GND (power), 45 TDI (in), 46 NC, 47 TMS (in), 48 TCK (in), 49 I/O/MC3-3 (io), 50 I/O/MC3-4 (io), 51 VCCIO (power), 52 I/O/MC3-11 (io), 53 I/O/MC3-6 (io), 54 I/O/MC3-7 (io), 55 I/O/MC3-14 (io), 56 I/O/MC3-15 (io), 57 VCCINT (power), 58 I/O/MC3-17 (io), 59 I/O/MC3-18 (io), 60 I/O/MC3-10 (io), 61 I/O/MC3-12 (io), 62 GND (power), 63 I/O/MC3-13 (io), 64 I/O/MC4-2 (io), 65 I/O/MC3-16 (io), 66 I/O/MC4-1 (io), 67 I/O/MC4-5 (io), 68 I/O/MC4-8 (io), 69 GND (power), 70 I/O/MC4-9 (io), 71 I/O/MC4-3 (io), 72 I/O/MC4-4 (io), 73 NC, 74 I/O/MC4-11 (io), 75 GND (power), 76 I/O/MC4-6 (io), 77 I/O/MC4-7 (io), 78 I/O/MC4-14 (io), 79 I/O/MC4-18 (io), 80 NC, 81 I/O/MC4-10 (io), 82 I/O/MC4-12 (io), 83 TDO (out), 84 GND (power), 85 I/O/MC4-13 (io), 86 I/O/MC4-16 (io), 87 I/O/MC2-1 (io), 88 VCCIO (power), 89 I/O/MC4-15 (io), 90 I/O/MC4-17 (io), 91 I/O/MC2-3 (io), 92 I/O/MC2-18 (io), 93 I/O/MC2-4 (io), 94 I/O/MC2-2 (io), 95 I/O/MC2-5 (io), 96 I/O/MC2-6 (io), 97 I/O/MC2-8 (io), 98 VCCINT (power), 99 I/O/GSR/MC2-9 (io), 100 GND (power)

## XC9572-10PC44C
designator U?
XC9500, 5V CPLD with 72 Macrocells, 44-Pin PLCC, Commercial Grade; PackageDocument: ver1.0, Jun-2000; Published: 8-Jun-2000; LatestRevisionDate: 17-Sep-2003; LatestRevisionNote: PCB Footprint dimensions updated; DatasheetDocument: ver4.1, Aug-2003; PackageReference: PC44; Publisher: Altium Limited; Code_JEDEC: MS-047; Code_IPC: PLCC-44
footprint PC44 (44-Pin Plastic Leaded Chip Carrier (PC44))
3D model XC9572-PC44 (44-Pin Plastic Leaded Chip Carrier (PC44))
signal-integrity model XC9572_PLCC44 (XC9500)
pins: 1 I/O/MC1-2 (io), 2 I/O/MC1-5 (io), 3 I/O/MC1-6 (io), 4 I/O/MC1-8 (io), 5 I/O/GCK1/MC1-9 (io), 6 I/O/GCK2/MC1-11 (io), 7 I/O/GCK3/MC1-14 (io), 8 I/O/MC1-15 (io), 9 I/O/MC1-17 (io), 10 GND (power), 11 I/O/MC3-2 (io), 12 I/O/MC3-5 (io), 13 I/O/MC3-8 (io), 14 I/O/MC3-9 (io), 15 TDI (in), 16 TMS (in), 17 TCK (in), 18 I/O/MC3-11 (io), 19 I/O/MC3-14 (io), 20 I/O/MC3-15 (io), 21 VCCINT (power), 22 I/O/MC3-17 (io), 23 GND (power), 24 I/O/MC4-2 (io), 25 I/O/MC4-5 (io), 26 I/O/MC4-8 (io), 27 I/O/MC4-9 (io), 28 I/O/MC4-11 (io), 29 I/O/MC4-14 (io), 30 TDO (out), 31 GND (power), 32 VCCIO (power), 33 I/O/MC4-15 (io), 34 I/O/MC4-17 (io), 35 I/O/MC2-2 (io), 36 I/O/MC2-5 (io), 37 I/O/MC2-6 (io), 38 I/O/MC2-8 (io), 39 I/O/GSR/MC2-9 (io), 40 I/O/GTS2/MC2-11 (io), 41 VCCINT (power), 42 I/O/GTS1/MC2-14 (io), 43 I/O/MC2-15 (io), 44 I/O/MC2-17 (io)

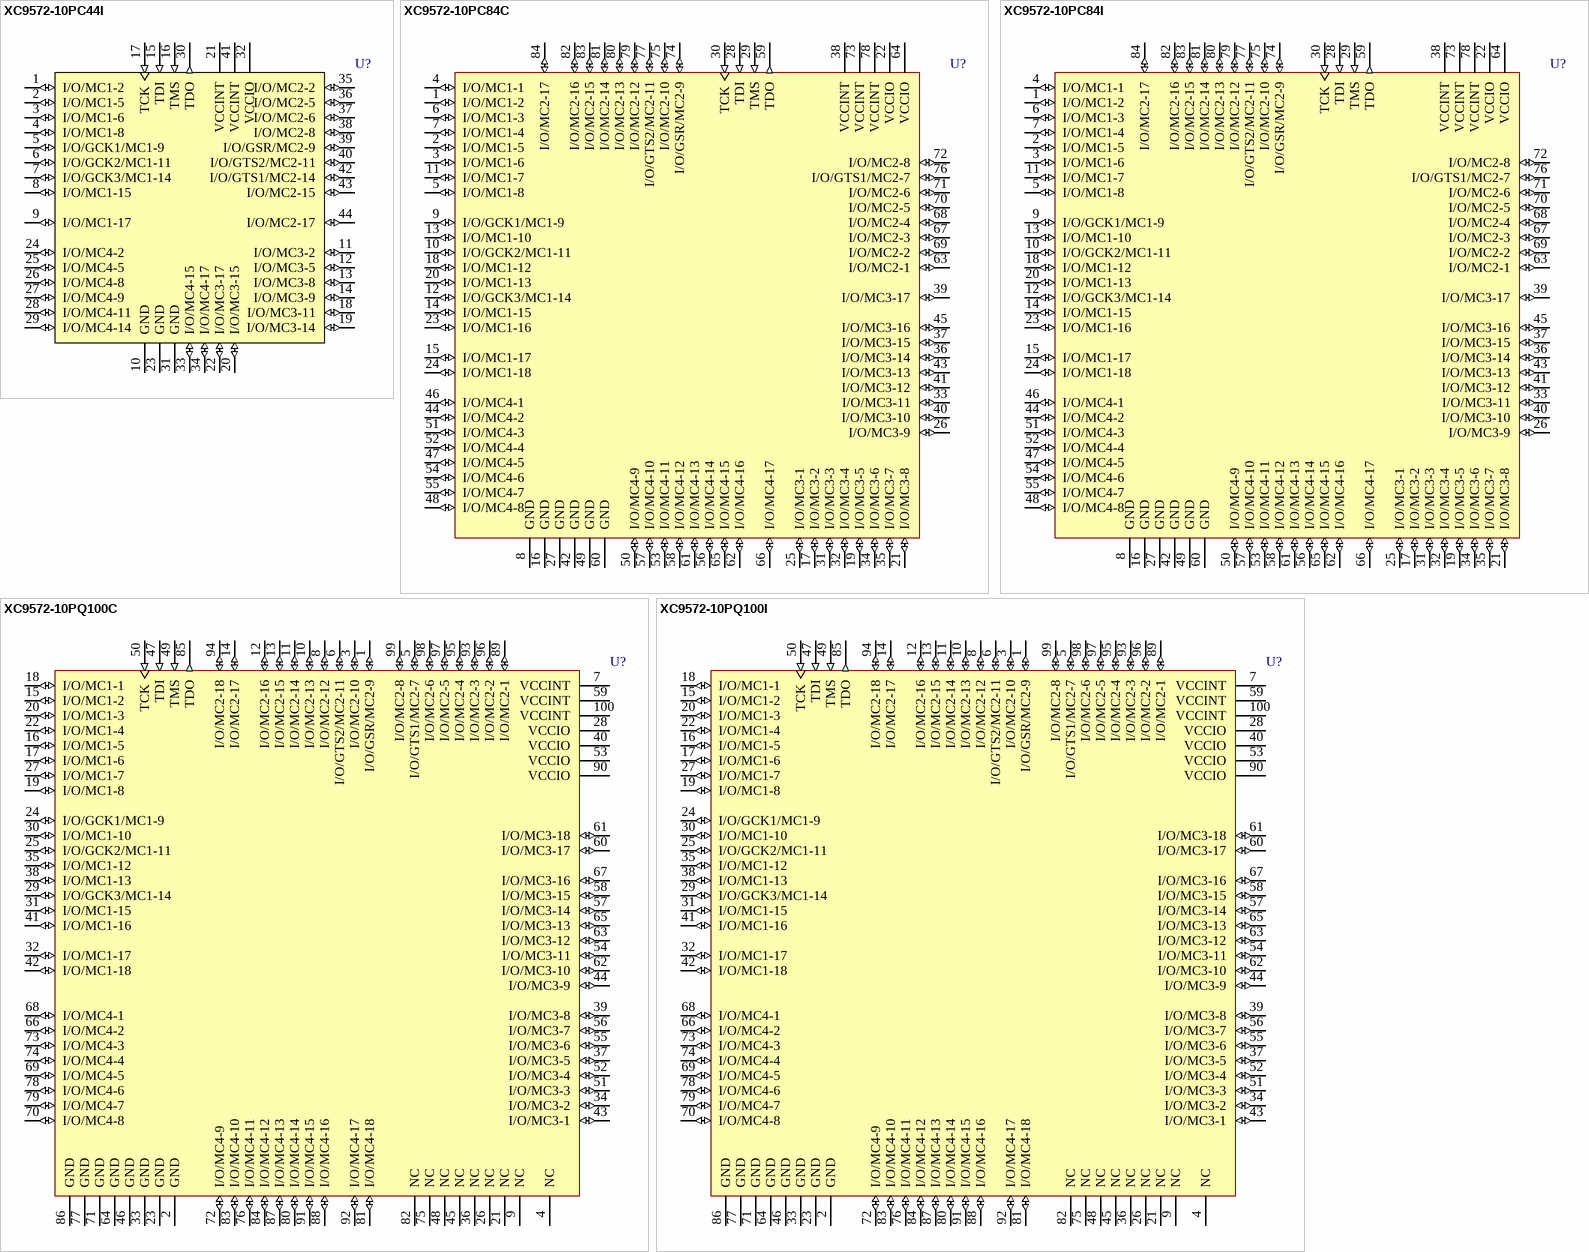
[diagram p3: symbols XC9572-10PC44I to XC9572-10PQ100I]

## XC9572-10PC44I
designator U?
XC9500, 5V CPLD with 72 Macrocells, 44-Pin PLCC, Industrial Grade; PackageDocument: ver1.0, Jun-2000; Published: 8-Jun-2000; LatestRevisionDate: 17-Sep-2003; LatestRevisionNote: PCB Footprint dimensions updated; DatasheetDocument: ver4.1, Aug-2003; PackageReference: PC44; Publisher: Altium Limited; Code_JEDEC: MS-047; Code_IPC: PLCC-44
footprint PC44 (44-Pin Plastic Leaded Chip Carrier (PC44))
3D model XC9572-PC44 (44-Pin Plastic Leaded Chip Carrier (PC44))
signal-integrity model XC9572_PLCC44 (XC9500)
pins: 1 I/O/MC1-2 (io), 2 I/O/MC1-5 (io), 3 I/O/MC1-6 (io), 4 I/O/MC1-8 (io), 5 I/O/GCK1/MC1-9 (io), 6 I/O/GCK2/MC1-11 (io), 7 I/O/GCK3/MC1-14 (io), 8 I/O/MC1-15 (io), 9 I/O/MC1-17 (io), 10 GND (power), 11 I/O/MC3-2 (io), 12 I/O/MC3-5 (io), 13 I/O/MC3-8 (io), 14 I/O/MC3-9 (io), 15 TDI (in), 16 TMS (in), 17 TCK (in), 18 I/O/MC3-11 (io), 19 I/O/MC3-14 (io), 20 I/O/MC3-15 (io), 21 VCCINT (power), 22 I/O/MC3-17 (io), 23 GND (power), 24 I/O/MC4-2 (io), 25 I/O/MC4-5 (io), 26 I/O/MC4-8 (io), 27 I/O/MC4-9 (io), 28 I/O/MC4-11 (io), 29 I/O/MC4-14 (io), 30 TDO (out), 31 GND (power), 32 VCCIO (power), 33 I/O/MC4-15 (io), 34 I/O/MC4-17 (io), 35 I/O/MC2-2 (io), 36 I/O/MC2-5 (io), 37 I/O/MC2-6 (io), 38 I/O/MC2-8 (io), 39 I/O/GSR/MC2-9 (io), 40 I/O/GTS2/MC2-11 (io), 41 VCCINT (power), 42 I/O/GTS1/MC2-14 (io), 43 I/O/MC2-15 (io), 44 I/O/MC2-17 (io)

## XC9572-10PC84C
designator U?
XC9500, 5V CPLD with 72 Macrocells, 84-Pin PLCC, Commercial Grade; PackageDocument: ver1.0, Jun-2000; Published: 8-Jun-2000; LatestRevisionDate: 17-Sep-2003; LatestRevisionNote: PCB Footprint dimensions updated; DatasheetDocument: ver4.1, Aug-2003; PackageReference: PC84; Publisher: Altium Limited; Code_JEDEC: MS-047; Code_IPC: PLCC-84
footprint PC84 (84-Pin Plastic Leaded Chip Carrier (PC84))
3D model XC9572-PC84 (84-Pin Plastic Leaded Chip Carrier (PC84))
signal-integrity model XC9572_PLCC84 (XC9500)
pins: 1 I/O/MC1-2 (io), 2 I/O/MC1-5 (io), 3 I/O/MC1-6 (io), 4 I/O/MC1-1 (io), 5 I/O/MC1-8 (io), 6 I/O/MC1-3 (io), 7 I/O/MC1-4 (io), 8 GND (power), 9 I/O/GCK1/MC1-9 (io), 10 I/O/GCK2/MC1-11 (io), 11 I/O/MC1-7 (io), 12 I/O/GCK3/MC1-14 (io), 13 I/O/MC1-10 (io), 14 I/O/MC1-15 (io), 15 I/O/MC1-17 (io), 16 GND (power), 17 I/O/MC3-2 (io), 18 I/O/MC1-12 (io), 19 I/O/MC3-5 (io), 20 I/O/MC1-13 (io), 21 I/O/MC3-8 (io), 22 VCCIO (power), 23 I/O/MC1-16 (io), 24 I/O/MC1-18 (io), 25 I/O/MC3-1 (io), 26 I/O/MC3-9 (io), 27 GND (power), 28 TDI (in), 29 TMS (in), 30 TCK (in), 31 I/O/MC3-3 (io), 32 I/O/MC3-4 (io), 33 I/O/MC3-11 (io), 34 I/O/MC3-6 (io), 35 I/O/MC3-7 (io), 36 I/O/MC3-14 (io), 37 I/O/MC3-15 (io), 38 VCCINT (power), 39 I/O/MC3-17 (io), 40 I/O/MC3-10 (io), 41 I/O/MC3-12 (io), 42 GND (power), 43 I/O/MC3-13 (io), 44 I/O/MC4-2 (io), 45 I/O/MC3-16 (io), 46 I/O/MC4-1 (io), 47 I/O/MC4-5 (io), 48 I/O/MC4-8 (io), 49 GND (power), 50 I/O/MC4-9 (io), 51 I/O/MC4-3 (io), 52 I/O/MC4-4 (io), 53 I/O/MC4-11 (io), 54 I/O/MC4-6 (io), 55 I/O/MC4-7 (io), 56 I/O/MC4-14 (io), 57 I/O/MC4-10 (io), 58 I/O/MC4-12 (io), 59 TDO (out), 60 GND (power), 61 I/O/MC4-13 (io), 62 I/O/MC4-16 (io), 63 I/O/MC2-1 (io), 64 VCCIO (power), 65 I/O/MC4-15 (io), 66 I/O/MC4-17 (io), 67 I/O/MC2-3 (io), 68 I/O/MC2-4 (io), 69 I/O/MC2-2 (io), 70 I/O/MC2-5 (io), 71 I/O/MC2-6 (io), 72 I/O/MC2-8 (io), 73 VCCINT (power), 74 I/O/GSR/MC2-9 (io), 75 I/O/MC2-10 (io), 76 I/O/GTS1/MC2-7 (io), 77 I/O/GTS2/MC2-11 (io), 78 VCCINT (power), 79 I/O/MC2-12 (io), 80 I/O/MC2-13 (io), 81 I/O/MC2-14 (io), 82 I/O/MC2-16 (io), 83 I/O/MC2-15 (io), 84 I/O/MC2-17 (io)

## XC9572-10PC84I
designator U?
XC9500, 5V CPLD with 72 Macrocells, 84-Pin PLCC, Industrial Grade; PackageDocument: ver1.0, Jun-2000; Published: 8-Jun-2000; LatestRevisionDate: 17-Sep-2003; LatestRevisionNote: PCB Footprint dimensions updated; DatasheetDocument: ver4.1, Aug-2003; PackageReference: PC84; Publisher: Altium Limited; Code_JEDEC: MS-047; Code_IPC: PLCC-84
footprint PC84 (84-Pin Plastic Leaded Chip Carrier (PC84))
3D model XC9572-PC84 (84-Pin Plastic Leaded Chip Carrier (PC84))
signal-integrity model XC9572_PLCC84 (XC9500)
pins: 1 I/O/MC1-2 (io), 2 I/O/MC1-5 (io), 3 I/O/MC1-6 (io), 4 I/O/MC1-1 (io), 5 I/O/MC1-8 (io), 6 I/O/MC1-3 (io), 7 I/O/MC1-4 (io), 8 GND (power), 9 I/O/GCK1/MC1-9 (io), 10 I/O/GCK2/MC1-11 (io), 11 I/O/MC1-7 (io), 12 I/O/GCK3/MC1-14 (io), 13 I/O/MC1-10 (io), 14 I/O/MC1-15 (io), 15 I/O/MC1-17 (io), 16 GND (power), 17 I/O/MC3-2 (io), 18 I/O/MC1-12 (io), 19 I/O/MC3-5 (io), 20 I/O/MC1-13 (io), 21 I/O/MC3-8 (io), 22 VCCIO (power), 23 I/O/MC1-16 (io), 24 I/O/MC1-18 (io), 25 I/O/MC3-1 (io), 26 I/O/MC3-9 (io), 27 GND (power), 28 TDI (in), 29 TMS (in), 30 TCK (in), 31 I/O/MC3-3 (io), 32 I/O/MC3-4 (io), 33 I/O/MC3-11 (io), 34 I/O/MC3-6 (io), 35 I/O/MC3-7 (io), 36 I/O/MC3-14 (io), 37 I/O/MC3-15 (io), 38 VCCINT (power), 39 I/O/MC3-17 (io), 40 I/O/MC3-10 (io), 41 I/O/MC3-12 (io), 42 GND (power), 43 I/O/MC3-13 (io), 44 I/O/MC4-2 (io), 45 I/O/MC3-16 (io), 46 I/O/MC4-1 (io), 47 I/O/MC4-5 (io), 48 I/O/MC4-8 (io), 49 GND (power), 50 I/O/MC4-9 (io), 51 I/O/MC4-3 (io), 52 I/O/MC4-4 (io), 53 I/O/MC4-11 (io), 54 I/O/MC4-6 (io), 55 I/O/MC4-7 (io), 56 I/O/MC4-14 (io), 57 I/O/MC4-10 (io), 58 I/O/MC4-12 (io), 59 TDO (out), 60 GND (power), 61 I/O/MC4-13 (io), 62 I/O/MC4-16 (io), 63 I/O/MC2-1 (io), 64 VCCIO (power), 65 I/O/MC4-15 (io), 66 I/O/MC4-17 (io), 67 I/O/MC2-3 (io), 68 I/O/MC2-4 (io), 69 I/O/MC2-2 (io), 70 I/O/MC2-5 (io), 71 I/O/MC2-6 (io), 72 I/O/MC2-8 (io), 73 VCCINT (power), 74 I/O/GSR/MC2-9 (io), 75 I/O/MC2-10 (io), 76 I/O/GTS1/MC2-7 (io), 77 I/O/GTS2/MC2-11 (io), 78 VCCINT (power), 79 I/O/MC2-12 (io), 80 I/O/MC2-13 (io), 81 I/O/MC2-14 (io), 82 I/O/MC2-16 (io), 83 I/O/MC2-15 (io), 84 I/O/MC2-17 (io)

## XC9572-10PQ100C
designator U?
XC9500, 5V CPLD with 72 Macrocells, 100-Pin PQFP, Commercial Grade; PackageDocument: ver1.2, Oct-2002; Published: 8-Jun-2000; LatestRevisionDate: 17-Sep-2003; LatestRevisionNote: PCB Footprint dimensions updated; DatasheetDocument: ver4.1, Aug-2003; PackageReference: PQ100; Publisher: Altium Limited; Code_IPC: QFP-14X20-100
footprint PQ100 (100-Pin Plastic Quad Flat Pack (PQ100))
3D model XC9572-PQ100 (100-Pin Plastic Quad Flat Pack (PQ100))
signal-integrity model XC9572_PQ100 (XC9500)
pins: 1 I/O/GSR/MC2-9 (io), 2 GND (power), 3 I/O/MC2-10 (io), 4 NC, 5 I/O/GTS1/MC2-7 (io), 6 I/O/GTS2/MC2-11 (io), 7 VCCINT (power), 8 I/O/MC2-12 (io), 9 NC, 10 I/O/MC2-13 (io), 11 I/O/MC2-14 (io), 12 I/O/MC2-16 (io), 13 I/O/MC2-15 (io), 14 I/O/MC2-17 (io), 15 I/O/MC1-2 (io), 16 I/O/MC1-5 (io), 17 I/O/MC1-6 (io), 18 I/O/MC1-1 (io), 19 I/O/MC1-8 (io), 20 I/O/MC1-3 (io), 21 NC, 22 I/O/MC1-4 (io), 23 GND (power), 24 I/O/GCK1/MC1-9 (io), 25 I/O/GCK2/MC1-11 (io), 26 NC, 27 I/O/MC1-7 (io), 28 VCCIO (power), 29 I/O/GCK3/MC1-14 (io), 30 I/O/MC1-10 (io), 31 I/O/MC1-15 (io), 32 I/O/MC1-17 (io), 33 GND (power), 34 I/O/MC3-2 (io), 35 I/O/MC1-12 (io), 36 NC, 37 I/O/MC3-5 (io), 38 I/O/MC1-13 (io), 39 I/O/MC3-8 (io), 40 VCCIO (power), 41 I/O/MC1-16 (io), 42 I/O/MC1-18 (io), 43 I/O/MC3-1 (io), 44 I/O/MC3-9 (io), 45 NC, 46 GND (power), 47 TDI (in), 48 NC, 49 TMS (in), 50 TCK (in), 51 I/O/MC3-3 (io), 52 I/O/MC3-4 (io), 53 VCCIO (power), 54 I/O/MC3-11 (io), 55 I/O/MC3-6 (io), 56 I/O/MC3-7 (io), 57 I/O/MC3-14 (io), 58 I/O/MC3-15 (io), 59 VCCINT (power), 60 I/O/MC3-17 (io), 61 I/O/MC3-18 (io), 62 I/O/MC3-10 (io), 63 I/O/MC3-12 (io), 64 GND (power), 65 I/O/MC3-13 (io), 66 I/O/MC4-2 (io), 67 I/O/MC3-16 (io), 68 I/O/MC4-1 (io), 69 I/O/MC4-5 (io), 70 I/O/MC4-8 (io), 71 GND (power), 72 I/O/MC4-9 (io), 73 I/O/MC4-3 (io), 74 I/O/MC4-4 (io), 75 NC, 76 I/O/MC4-11 (io), 77 GND (power), 78 I/O/MC4-6 (io), 79 I/O/MC4-7 (io), 80 I/O/MC4-14 (io), 81 I/O/MC4-18 (io), 82 NC, 83 I/O/MC4-10 (io), 84 I/O/MC4-12 (io), 85 TDO (out), 86 GND (power), 87 I/O/MC4-13 (io), 88 I/O/MC4-16 (io), 89 I/O/MC2-1 (io), 90 VCCIO (power), 91 I/O/MC4-15 (io), 92 I/O/MC4-17 (io), 93 I/O/MC2-3 (io), 94 I/O/MC2-18 (io), 95 I/O/MC2-4 (io), 96 I/O/MC2-2 (io), 97 I/O/MC2-5 (io), 98 I/O/MC2-6 (io), 99 I/O/MC2-8 (io), 100 VCCINT (power)

## XC9572-10PQ100I
designator U?
XC9500, 5V CPLD with 72 Macrocells, 100-Pin PQFP, Industrial Grade; PackageDocument: ver1.2, Oct-2002; Published: 8-Jun-2000; LatestRevisionDate: 17-Sep-2003; LatestRevisionNote: PCB Footprint dimensions updated; DatasheetDocument: ver4.1, Aug-2003; PackageReference: PQ100; Publisher: Altium Limited; Code_IPC: QFP-14X20-100
footprint PQ100 (100-Pin Plastic Quad Flat Pack (PQ100))
3D model XC9572-PQ100 (100-Pin Plastic Quad Flat Pack (PQ100))
signal-integrity model XC9572_PQ100 (XC9500)
pins: 1 I/O/GSR/MC2-9 (io), 2 GND (power), 3 I/O/MC2-10 (io), 4 NC, 5 I/O/GTS1/MC2-7 (io), 6 I/O/GTS2/MC2-11 (io), 7 VCCINT (power), 8 I/O/MC2-12 (io), 9 NC, 10 I/O/MC2-13 (io), 11 I/O/MC2-14 (io), 12 I/O/MC2-16 (io), 13 I/O/MC2-15 (io), 14 I/O/MC2-17 (io), 15 I/O/MC1-2 (io), 16 I/O/MC1-5 (io), 17 I/O/MC1-6 (io), 18 I/O/MC1-1 (io), 19 I/O/MC1-8 (io), 20 I/O/MC1-3 (io), 21 NC, 22 I/O/MC1-4 (io), 23 GND (power), 24 I/O/GCK1/MC1-9 (io), 25 I/O/GCK2/MC1-11 (io), 26 NC, 27 I/O/MC1-7 (io), 28 VCCIO (power), 29 I/O/GCK3/MC1-14 (io), 30 I/O/MC1-10 (io), 31 I/O/MC1-15 (io), 32 I/O/MC1-17 (io), 33 GND (power), 34 I/O/MC3-2 (io), 35 I/O/MC1-12 (io), 36 NC, 37 I/O/MC3-5 (io), 38 I/O/MC1-13 (io), 39 I/O/MC3-8 (io), 40 VCCIO (power), 41 I/O/MC1-16 (io), 42 I/O/MC1-18 (io), 43 I/O/MC3-1 (io), 44 I/O/MC3-9 (io), 45 NC, 46 GND (power), 47 TDI (in), 48 NC, 49 TMS (in), 50 TCK (in), 51 I/O/MC3-3 (io), 52 I/O/MC3-4 (io), 53 VCCIO (power), 54 I/O/MC3-11 (io), 55 I/O/MC3-6 (io), 56 I/O/MC3-7 (io), 57 I/O/MC3-14 (io), 58 I/O/MC3-15 (io), 59 VCCINT (power), 60 I/O/MC3-17 (io), 61 I/O/MC3-18 (io), 62 I/O/MC3-10 (io), 63 I/O/MC3-12 (io), 64 GND (power), 65 I/O/MC3-13 (io), 66 I/O/MC4-2 (io), 67 I/O/MC3-16 (io), 68 I/O/MC4-1 (io), 69 I/O/MC4-5 (io), 70 I/O/MC4-8 (io), 71 GND (power), 72 I/O/MC4-9 (io), 73 I/O/MC4-3 (io), 74 I/O/MC4-4 (io), 75 NC, 76 I/O/MC4-11 (io), 77 GND (power), 78 I/O/MC4-6 (io), 79 I/O/MC4-7 (io), 80 I/O/MC4-14 (io), 81 I/O/MC4-18 (io), 82 NC, 83 I/O/MC4-10 (io), 84 I/O/MC4-12 (io), 85 TDO (out), 86 GND (power), 87 I/O/MC4-13 (io), 88 I/O/MC4-16 (io), 89 I/O/MC2-1 (io), 90 VCCIO (power), 91 I/O/MC4-15 (io), 92 I/O/MC4-17 (io), 93 I/O/MC2-3 (io), 94 I/O/MC2-18 (io), 95 I/O/MC2-4 (io), 96 I/O/MC2-2 (io), 97 I/O/MC2-5 (io), 98 I/O/MC2-6 (io), 99 I/O/MC2-8 (io), 100 VCCINT (power)

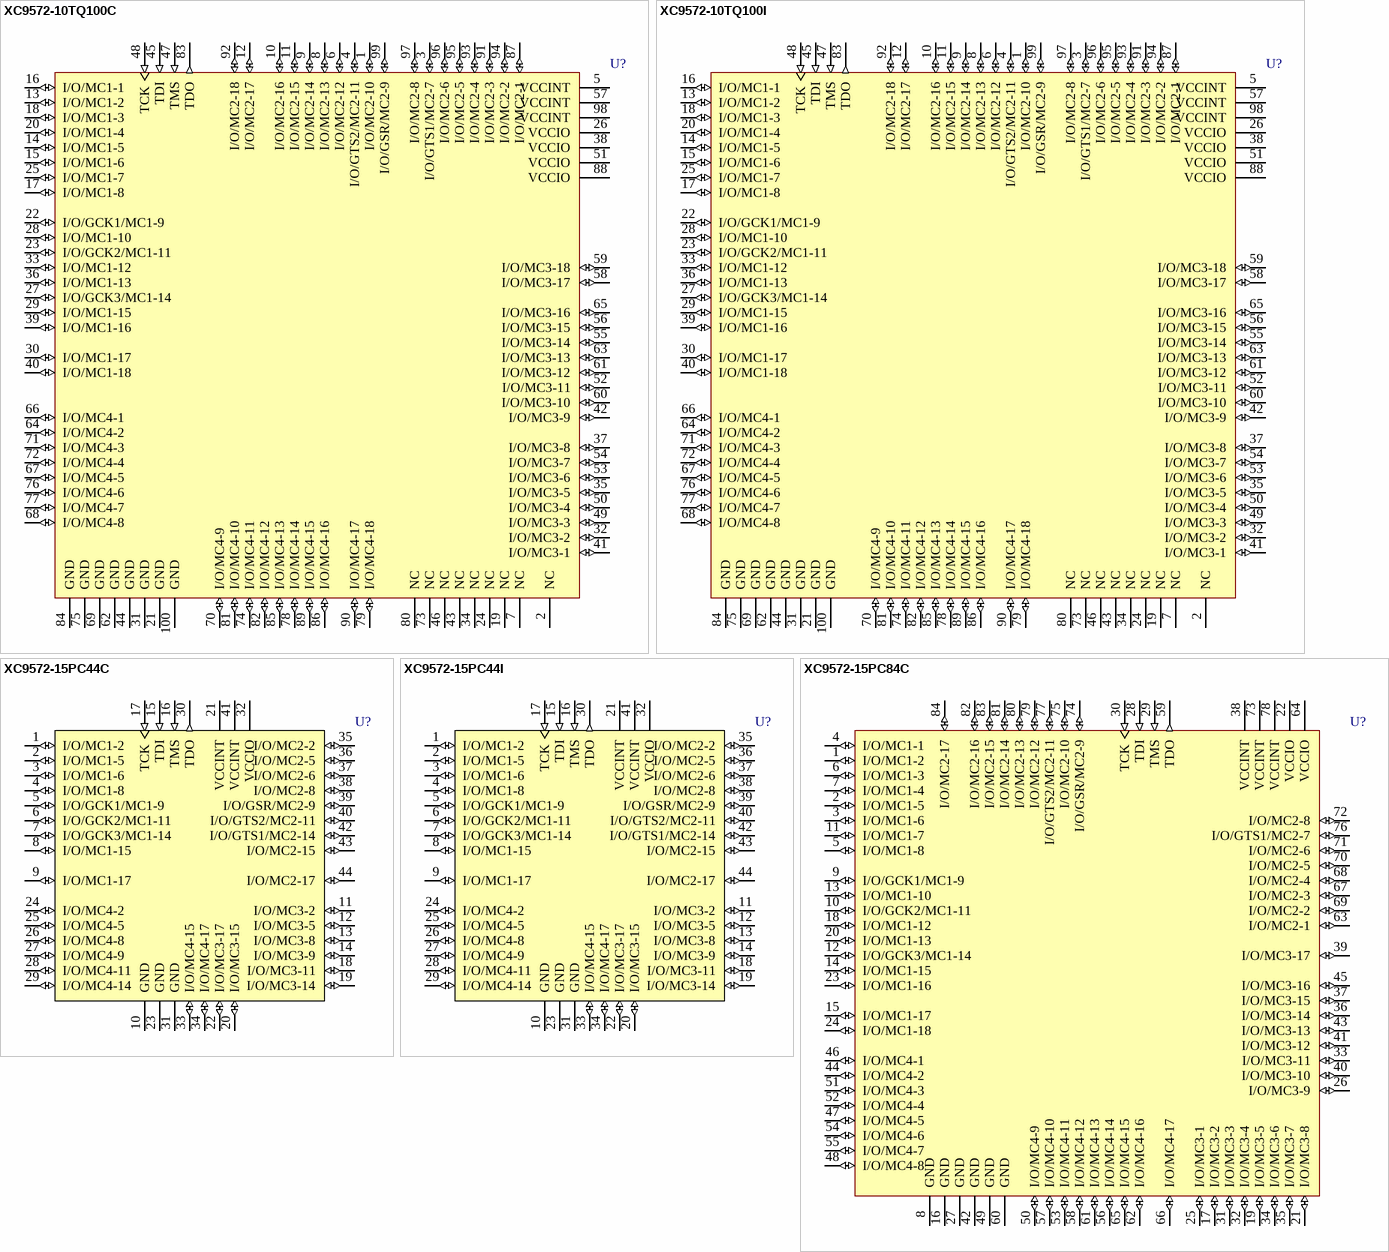
[diagram p4: symbols XC9572-10TQ100C to XC9572-15PC84C]

## XC9572-10TQ100C
designator U?
XC9500, 5V CPLD with 72 Macrocells, 100-Pin TQFP, Commercial Grade; PackageDocument: ver1.1, Oct-2002; Published: 8-Jun-2000; LatestRevisionDate: 17-Jul-2002; LatestRevisionNote: Re-released for DXP Platform.; DatasheetDocument: ver4.1, Aug-2003; PackageReference: TQ100; Publisher: Altium Limited; Code_IPC: SQFP14X14-100
footprint TQ100 (100-Pin Thin Quad Flat Pack (TQ100))
3D model XC9572-TQ100 (100-Pin Thin Quad Flat Pack (TQ100))
signal-integrity model XC9572_TQ100 (XC9500)
pins: 1 I/O/MC2-10 (io), 2 NC, 3 I/O/GTS1/MC2-7 (io), 4 I/O/GTS2/MC2-11 (io), 5 VCCINT (power), 6 I/O/MC2-12 (io), 7 NC, 8 I/O/MC2-13 (io), 9 I/O/MC2-14 (io), 10 I/O/MC2-16 (io), 11 I/O/MC2-15 (io), 12 I/O/MC2-17 (io), 13 I/O/MC1-2 (io), 14 I/O/MC1-5 (io), 15 I/O/MC1-6 (io), 16 I/O/MC1-1 (io), 17 I/O/MC1-8 (io), 18 I/O/MC1-3 (io), 19 NC, 20 I/O/MC1-4 (io), 21 GND (power), 22 I/O/GCK1/MC1-9 (io), 23 I/O/GCK2/MC1-11 (io), 24 NC, 25 I/O/MC1-7 (io), 26 VCCIO (power), 27 I/O/GCK3/MC1-14 (io), 28 I/O/MC1-10 (io), 29 I/O/MC1-15 (io), 30 I/O/MC1-17 (io), 31 GND (power), 32 I/O/MC3-2 (io), 33 I/O/MC1-12 (io), 34 NC, 35 I/O/MC3-5 (io), 36 I/O/MC1-13 (io), 37 I/O/MC3-8 (io), 38 VCCIO (power), 39 I/O/MC1-16 (io), 40 I/O/MC1-18 (io), 41 I/O/MC3-1 (io), 42 I/O/MC3-9 (io), 43 NC, 44 GND (power), 45 TDI (in), 46 NC, 47 TMS (in), 48 TCK (in), 49 I/O/MC3-3 (io), 50 I/O/MC3-4 (io), 51 VCCIO (power), 52 I/O/MC3-11 (io), 53 I/O/MC3-6 (io), 54 I/O/MC3-7 (io), 55 I/O/MC3-14 (io), 56 I/O/MC3-15 (io), 57 VCCINT (power), 58 I/O/MC3-17 (io), 59 I/O/MC3-18 (io), 60 I/O/MC3-10 (io), 61 I/O/MC3-12 (io), 62 GND (power), 63 I/O/MC3-13 (io), 64 I/O/MC4-2 (io), 65 I/O/MC3-16 (io), 66 I/O/MC4-1 (io), 67 I/O/MC4-5 (io), 68 I/O/MC4-8 (io), 69 GND (power), 70 I/O/MC4-9 (io), 71 I/O/MC4-3 (io), 72 I/O/MC4-4 (io), 73 NC, 74 I/O/MC4-11 (io), 75 GND (power), 76 I/O/MC4-6 (io), 77 I/O/MC4-7 (io), 78 I/O/MC4-14 (io), 79 I/O/MC4-18 (io), 80 NC, 81 I/O/MC4-10 (io), 82 I/O/MC4-12 (io), 83 TDO (out), 84 GND (power), 85 I/O/MC4-13 (io), 86 I/O/MC4-16 (io), 87 I/O/MC2-1 (io), 88 VCCIO (power), 89 I/O/MC4-15 (io), 90 I/O/MC4-17 (io), 91 I/O/MC2-3 (io), 92 I/O/MC2-18 (io), 93 I/O/MC2-4 (io), 94 I/O/MC2-2 (io), 95 I/O/MC2-5 (io), 96 I/O/MC2-6 (io), 97 I/O/MC2-8 (io), 98 VCCINT (power), 99 I/O/GSR/MC2-9 (io), 100 GND (power)

## XC9572-10TQ100I
designator U?
XC9500, 5V CPLD with 72 Macrocells, 100-Pin TQFP, Industrial Grade; PackageDocument: ver1.1, Oct-2002; Published: 8-Jun-2000; LatestRevisionDate: 17-Jul-2002; LatestRevisionNote: Re-released for DXP Platform.; DatasheetDocument: ver4.1, Aug-2003; PackageReference: TQ100; Publisher: Altium Limited; Code_IPC: SQFP14X14-100
footprint TQ100 (100-Pin Thin Quad Flat Pack (TQ100))
3D model XC9572-TQ100 (100-Pin Thin Quad Flat Pack (TQ100))
signal-integrity model XC9572_TQ100 (XC9500)
pins: 1 I/O/MC2-10 (io), 2 NC, 3 I/O/GTS1/MC2-7 (io), 4 I/O/GTS2/MC2-11 (io), 5 VCCINT (power), 6 I/O/MC2-12 (io), 7 NC, 8 I/O/MC2-13 (io), 9 I/O/MC2-14 (io), 10 I/O/MC2-16 (io), 11 I/O/MC2-15 (io), 12 I/O/MC2-17 (io), 13 I/O/MC1-2 (io), 14 I/O/MC1-5 (io), 15 I/O/MC1-6 (io), 16 I/O/MC1-1 (io), 17 I/O/MC1-8 (io), 18 I/O/MC1-3 (io), 19 NC, 20 I/O/MC1-4 (io), 21 GND (power), 22 I/O/GCK1/MC1-9 (io), 23 I/O/GCK2/MC1-11 (io), 24 NC, 25 I/O/MC1-7 (io), 26 VCCIO (power), 27 I/O/GCK3/MC1-14 (io), 28 I/O/MC1-10 (io), 29 I/O/MC1-15 (io), 30 I/O/MC1-17 (io), 31 GND (power), 32 I/O/MC3-2 (io), 33 I/O/MC1-12 (io), 34 NC, 35 I/O/MC3-5 (io), 36 I/O/MC1-13 (io), 37 I/O/MC3-8 (io), 38 VCCIO (power), 39 I/O/MC1-16 (io), 40 I/O/MC1-18 (io), 41 I/O/MC3-1 (io), 42 I/O/MC3-9 (io), 43 NC, 44 GND (power), 45 TDI (in), 46 NC, 47 TMS (in), 48 TCK (in), 49 I/O/MC3-3 (io), 50 I/O/MC3-4 (io), 51 VCCIO (power), 52 I/O/MC3-11 (io), 53 I/O/MC3-6 (io), 54 I/O/MC3-7 (io), 55 I/O/MC3-14 (io), 56 I/O/MC3-15 (io), 57 VCCINT (power), 58 I/O/MC3-17 (io), 59 I/O/MC3-18 (io), 60 I/O/MC3-10 (io), 61 I/O/MC3-12 (io), 62 GND (power), 63 I/O/MC3-13 (io), 64 I/O/MC4-2 (io), 65 I/O/MC3-16 (io), 66 I/O/MC4-1 (io), 67 I/O/MC4-5 (io), 68 I/O/MC4-8 (io), 69 GND (power), 70 I/O/MC4-9 (io), 71 I/O/MC4-3 (io), 72 I/O/MC4-4 (io), 73 NC, 74 I/O/MC4-11 (io), 75 GND (power), 76 I/O/MC4-6 (io), 77 I/O/MC4-7 (io), 78 I/O/MC4-14 (io), 79 I/O/MC4-18 (io), 80 NC, 81 I/O/MC4-10 (io), 82 I/O/MC4-12 (io), 83 TDO (out), 84 GND (power), 85 I/O/MC4-13 (io), 86 I/O/MC4-16 (io), 87 I/O/MC2-1 (io), 88 VCCIO (power), 89 I/O/MC4-15 (io), 90 I/O/MC4-17 (io), 91 I/O/MC2-3 (io), 92 I/O/MC2-18 (io), 93 I/O/MC2-4 (io), 94 I/O/MC2-2 (io), 95 I/O/MC2-5 (io), 96 I/O/MC2-6 (io), 97 I/O/MC2-8 (io), 98 VCCINT (power), 99 I/O/GSR/MC2-9 (io), 100 GND (power)